# Altium integrated library wafer-scale-psd.IntLib: 84 symbols (part 1 of 2)
Pins are listed as number, name and electrical type; pins without a type are passive.

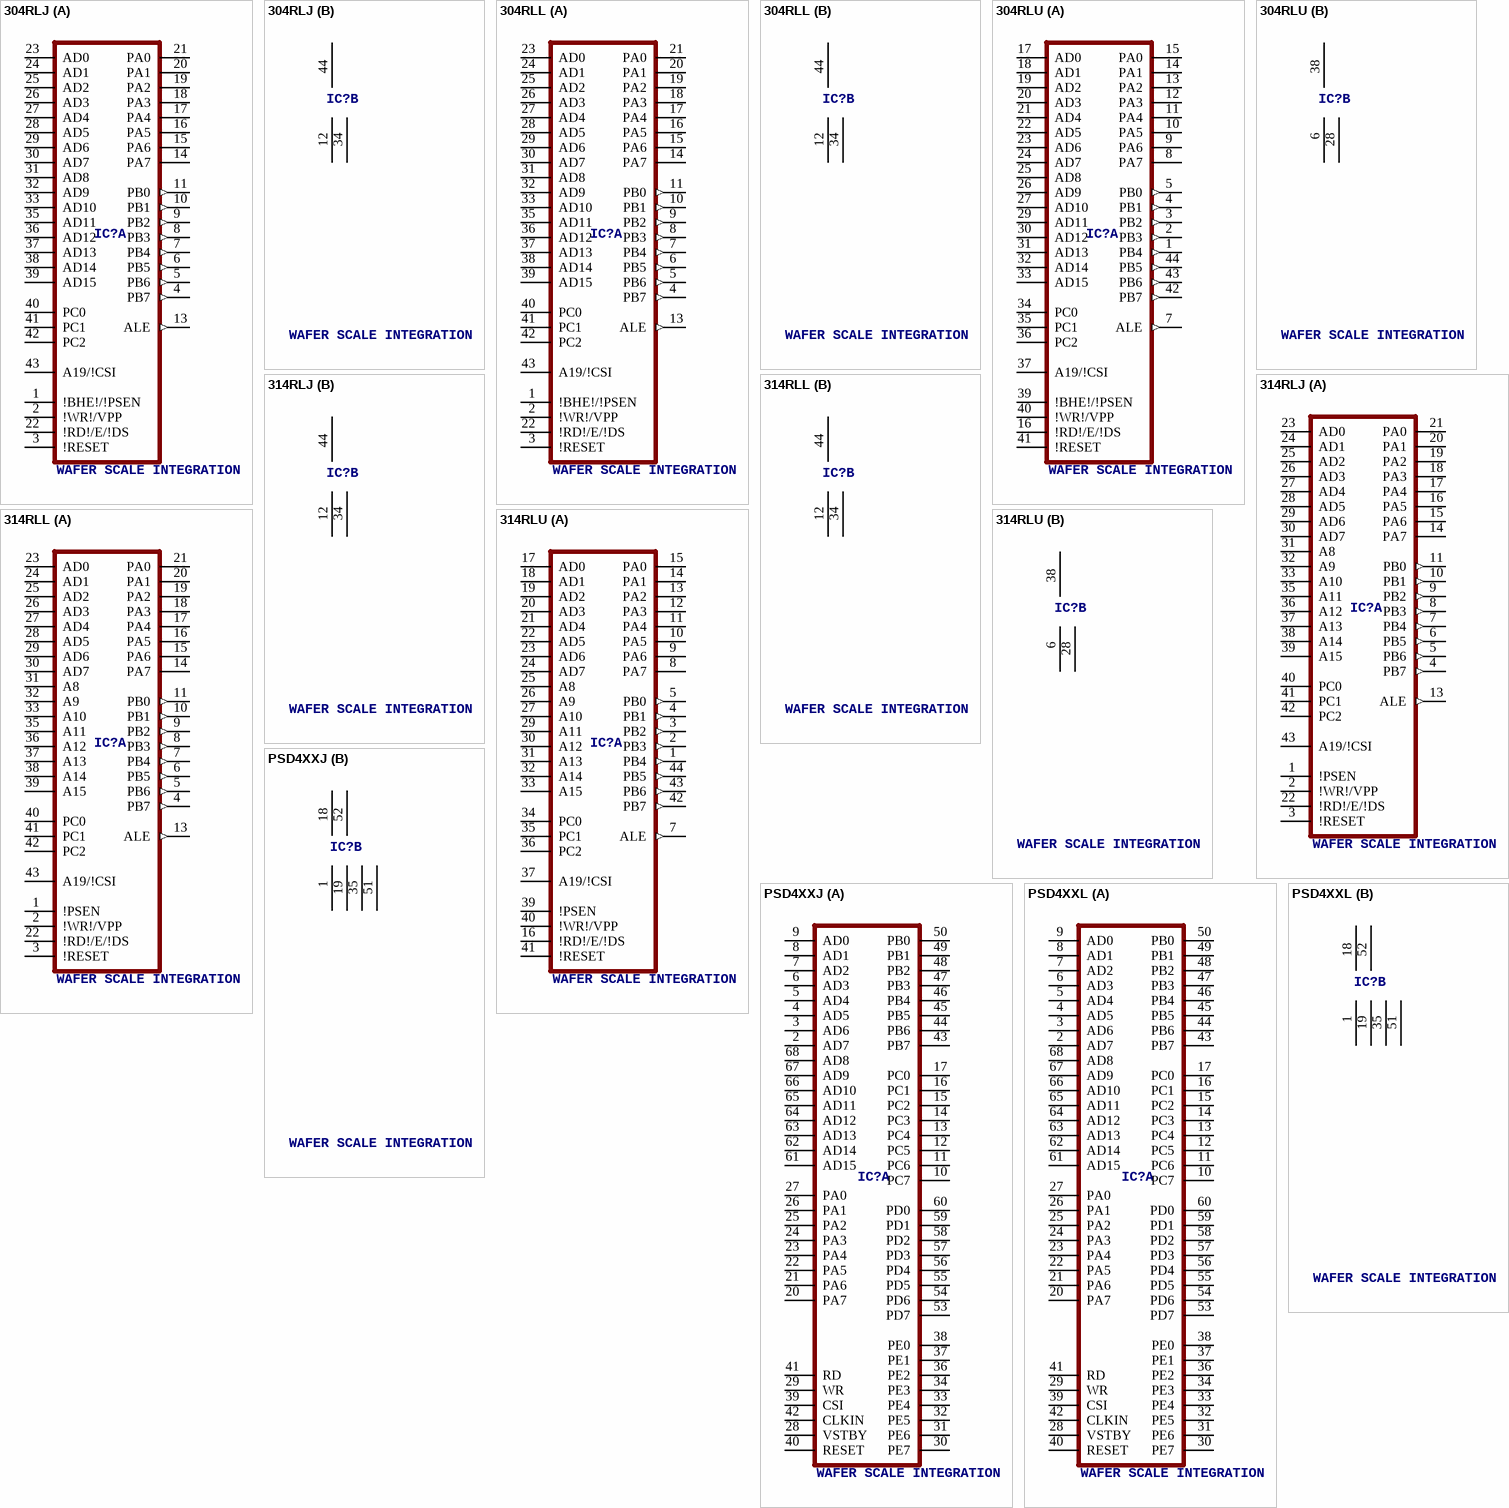
[diagram p0: symbols 304RLJ to PSD4XXL]

## 304RLJ
designator IC?, comment WAFER SCALE INTEGRATION
OC_FARNELL: unknown; OC_NEWARK: unknown
footprint PLDCC44
part A pins: 1 !BHE!/!PSEN, 2 !WR!/VPP, 3 !RESET, 4 PB7 (out), 5 PB6 (out), 6 PB5 (out), 7 PB4 (out), 8 PB3 (out), 9 PB2 (out), 10 PB1 (out), 11 PB0 (out), 13 ALE (out), 14 PA7, 15 PA6, 16 PA5, 17 PA4, 18 PA3, 19 PA2, 20 PA1, 21 PA0, 22 !RD!/E/!DS, 23 AD0, 24 AD1, 25 AD2, 26 AD3, 27 AD4, 28 AD5, 29 AD6, 30 AD7, 31 AD8, 32 AD9, 33 AD10, 35 AD11, 36 AD12, 37 AD13, 38 AD14, 39 AD15, 40 PC0, 41 PC1, 42 PC2, 43 A19/!CSI
part B pins: 12 GND (power), 34 GND@1 (power), 44 VCC (power)

## 304RLL
designator IC?, comment WAFER SCALE INTEGRATION
OC_FARNELL: unknown; OC_NEWARK: unknown
footprint CLDCC44
part A pins: 1 !BHE!/!PSEN, 2 !WR!/VPP, 3 !RESET, 4 PB7 (out), 5 PB6 (out), 6 PB5 (out), 7 PB4 (out), 8 PB3 (out), 9 PB2 (out), 10 PB1 (out), 11 PB0 (out), 13 ALE (out), 14 PA7, 15 PA6, 16 PA5, 17 PA4, 18 PA3, 19 PA2, 20 PA1, 21 PA0, 22 !RD!/E/!DS, 23 AD0, 24 AD1, 25 AD2, 26 AD3, 27 AD4, 28 AD5, 29 AD6, 30 AD7, 31 AD8, 32 AD9, 33 AD10, 35 AD11, 36 AD12, 37 AD13, 38 AD14, 39 AD15, 40 PC0, 41 PC1, 42 PC2, 43 A19/!CSI
part B pins: 12 GND (power), 34 GND@1 (power), 44 VCC (power)

## 304RLU
designator IC?, comment WAFER SCALE INTEGRATION
OC_FARNELL: unknown; OC_NEWARK: unknown
footprint TQFP44
part A pins: 1 PB4 (out), 2 PB3 (out), 3 PB2 (out), 4 PB1 (out), 5 PB0 (out), 7 ALE (out), 8 PA7, 9 PA6, 10 PA5, 11 PA4, 12 PA3, 13 PA2, 14 PA1, 15 PA0, 16 !RD!/E/!DS, 17 AD0, 18 AD1, 19 AD2, 20 AD3, 21 AD4, 22 AD5, 23 AD6, 24 AD7, 25 AD8, 26 AD9, 27 AD10, 29 AD11, 30 AD12, 31 AD13, 32 AD14, 33 AD15, 34 PC0, 35 PC1, 36 PC2, 37 A19/!CSI, 39 !BHE!/!PSEN, 40 !WR!/VPP, 41 !RESET, 42 PB7 (out), 43 PB6 (out), 44 PB5 (out)
part B pins: 6 GND (power), 28 GND@1 (power), 38 VCC (power)

## 314RLJ
designator IC?, comment WAFER SCALE INTEGRATION
OC_FARNELL: unknown; OC_NEWARK: unknown
footprint PLDCC44
part A pins: 1 !PSEN, 2 !WR!/VPP, 3 !RESET, 4 PB7 (out), 5 PB6 (out), 6 PB5 (out), 7 PB4 (out), 8 PB3 (out), 9 PB2 (out), 10 PB1 (out), 11 PB0 (out), 13 ALE (out), 14 PA7, 15 PA6, 16 PA5, 17 PA4, 18 PA3, 19 PA2, 20 PA1, 21 PA0, 22 !RD!/E/!DS, 23 AD0, 24 AD1, 25 AD2, 26 AD3, 27 AD4, 28 AD5, 29 AD6, 30 AD7, 31 A8, 32 A9, 33 A10, 35 A11, 36 A12, 37 A13, 38 A14, 39 A15, 40 PC0, 41 PC1, 42 PC2, 43 A19/!CSI
part B pins: 12 GND (power), 34 GND@1 (power), 44 VCC (power)

## 314RLL
designator IC?, comment WAFER SCALE INTEGRATION
OC_FARNELL: unknown; OC_NEWARK: unknown
footprint CLDCC44
part A pins: 1 !PSEN, 2 !WR!/VPP, 3 !RESET, 4 PB7 (out), 5 PB6 (out), 6 PB5 (out), 7 PB4 (out), 8 PB3 (out), 9 PB2 (out), 10 PB1 (out), 11 PB0 (out), 13 ALE (out), 14 PA7, 15 PA6, 16 PA5, 17 PA4, 18 PA3, 19 PA2, 20 PA1, 21 PA0, 22 !RD!/E/!DS, 23 AD0, 24 AD1, 25 AD2, 26 AD3, 27 AD4, 28 AD5, 29 AD6, 30 AD7, 31 A8, 32 A9, 33 A10, 35 A11, 36 A12, 37 A13, 38 A14, 39 A15, 40 PC0, 41 PC1, 42 PC2, 43 A19/!CSI
part B pins: 12 GND (power), 34 GND@1 (power), 44 VCC (power)

## 314RLU
designator IC?, comment WAFER SCALE INTEGRATION
OC_FARNELL: unknown; OC_NEWARK: unknown
footprint TQFP44
part A pins: 1 PB4 (out), 2 PB3 (out), 3 PB2 (out), 4 PB1 (out), 5 PB0 (out), 7 ALE (out), 8 PA7, 9 PA6, 10 PA5, 11 PA4, 12 PA3, 13 PA2, 14 PA1, 15 PA0, 16 !RD!/E/!DS, 17 AD0, 18 AD1, 19 AD2, 20 AD3, 21 AD4, 22 AD5, 23 AD6, 24 AD7, 25 A8, 26 A9, 27 A10, 29 A11, 30 A12, 31 A13, 32 A14, 33 A15, 34 PC0, 35 PC1, 36 PC2, 37 A19/!CSI, 39 !PSEN, 40 !WR!/VPP, 41 !RESET, 42 PB7 (out), 43 PB6 (out), 44 PB5 (out)
part B pins: 6 GND (power), 28 GND@1 (power), 38 VCC (power)

## PSD4XXJ
designator IC?, comment WAFER SCALE INTEGRATION
OC_FARNELL: unknown; OC_NEWARK: unknown
footprint PLDCC68
part A pins: 2 AD7, 3 AD6, 4 AD5, 5 AD4, 6 AD3, 7 AD2, 8 AD1, 9 AD0, 10 PC7, 11 PC6, 12 PC5, 13 PC4, 14 PC3, 15 PC2, 16 PC1, 17 PC0, 20 PA7, 21 PA6, 22 PA5, 23 PA4, 24 PA3, 25 PA2, 26 PA1, 27 PA0, 28 VSTBY, 29 WR, 30 PE7, 31 PE6, 32 PE5, 33 PE4, 34 PE3, 36 PE2, 37 PE1, 38 PE0, 39 CSI, 40 RESET, 41 RD, 42 CLKIN, 43 PB7, 44 PB6, 45 PB5, 46 PB4, 47 PB3, 48 PB2, 49 PB1, 50 PB0, 53 PD7, 54 PD6, 55 PD5, 56 PD4, 57 PD3, 58 PD2, 59 PD1, 60 PD0, 61 AD15, 62 AD14, 63 AD13, 64 AD12, 65 AD11, 66 AD10, 67 AD9, 68 AD8
part B pins: 1 GND (power), 18 VCC (power), 19 GND@1 (power), 35 GND@2 (power), 51 GND@3 (power), 52 VCC@1 (power)

## PSD4XXL
designator IC?, comment WAFER SCALE INTEGRATION
OC_FARNELL: unknown; OC_NEWARK: unknown
footprint CLDCC68
part A pins: 2 AD7, 3 AD6, 4 AD5, 5 AD4, 6 AD3, 7 AD2, 8 AD1, 9 AD0, 10 PC7, 11 PC6, 12 PC5, 13 PC4, 14 PC3, 15 PC2, 16 PC1, 17 PC0, 20 PA7, 21 PA6, 22 PA5, 23 PA4, 24 PA3, 25 PA2, 26 PA1, 27 PA0, 28 VSTBY, 29 WR, 30 PE7, 31 PE6, 32 PE5, 33 PE4, 34 PE3, 36 PE2, 37 PE1, 38 PE0, 39 CSI, 40 RESET, 41 RD, 42 CLKIN, 43 PB7, 44 PB6, 45 PB5, 46 PB4, 47 PB3, 48 PB2, 49 PB1, 50 PB0, 53 PD7, 54 PD6, 55 PD5, 56 PD4, 57 PD3, 58 PD2, 59 PD1, 60 PD0, 61 AD15, 62 AD14, 63 AD13, 64 AD12, 65 AD11, 66 AD10, 67 AD9, 68 AD8
part B pins: 1 GND (power), 18 VCC (power), 19 GND@1 (power), 35 GND@2 (power), 51 GND@3 (power), 52 VCC@1 (power)

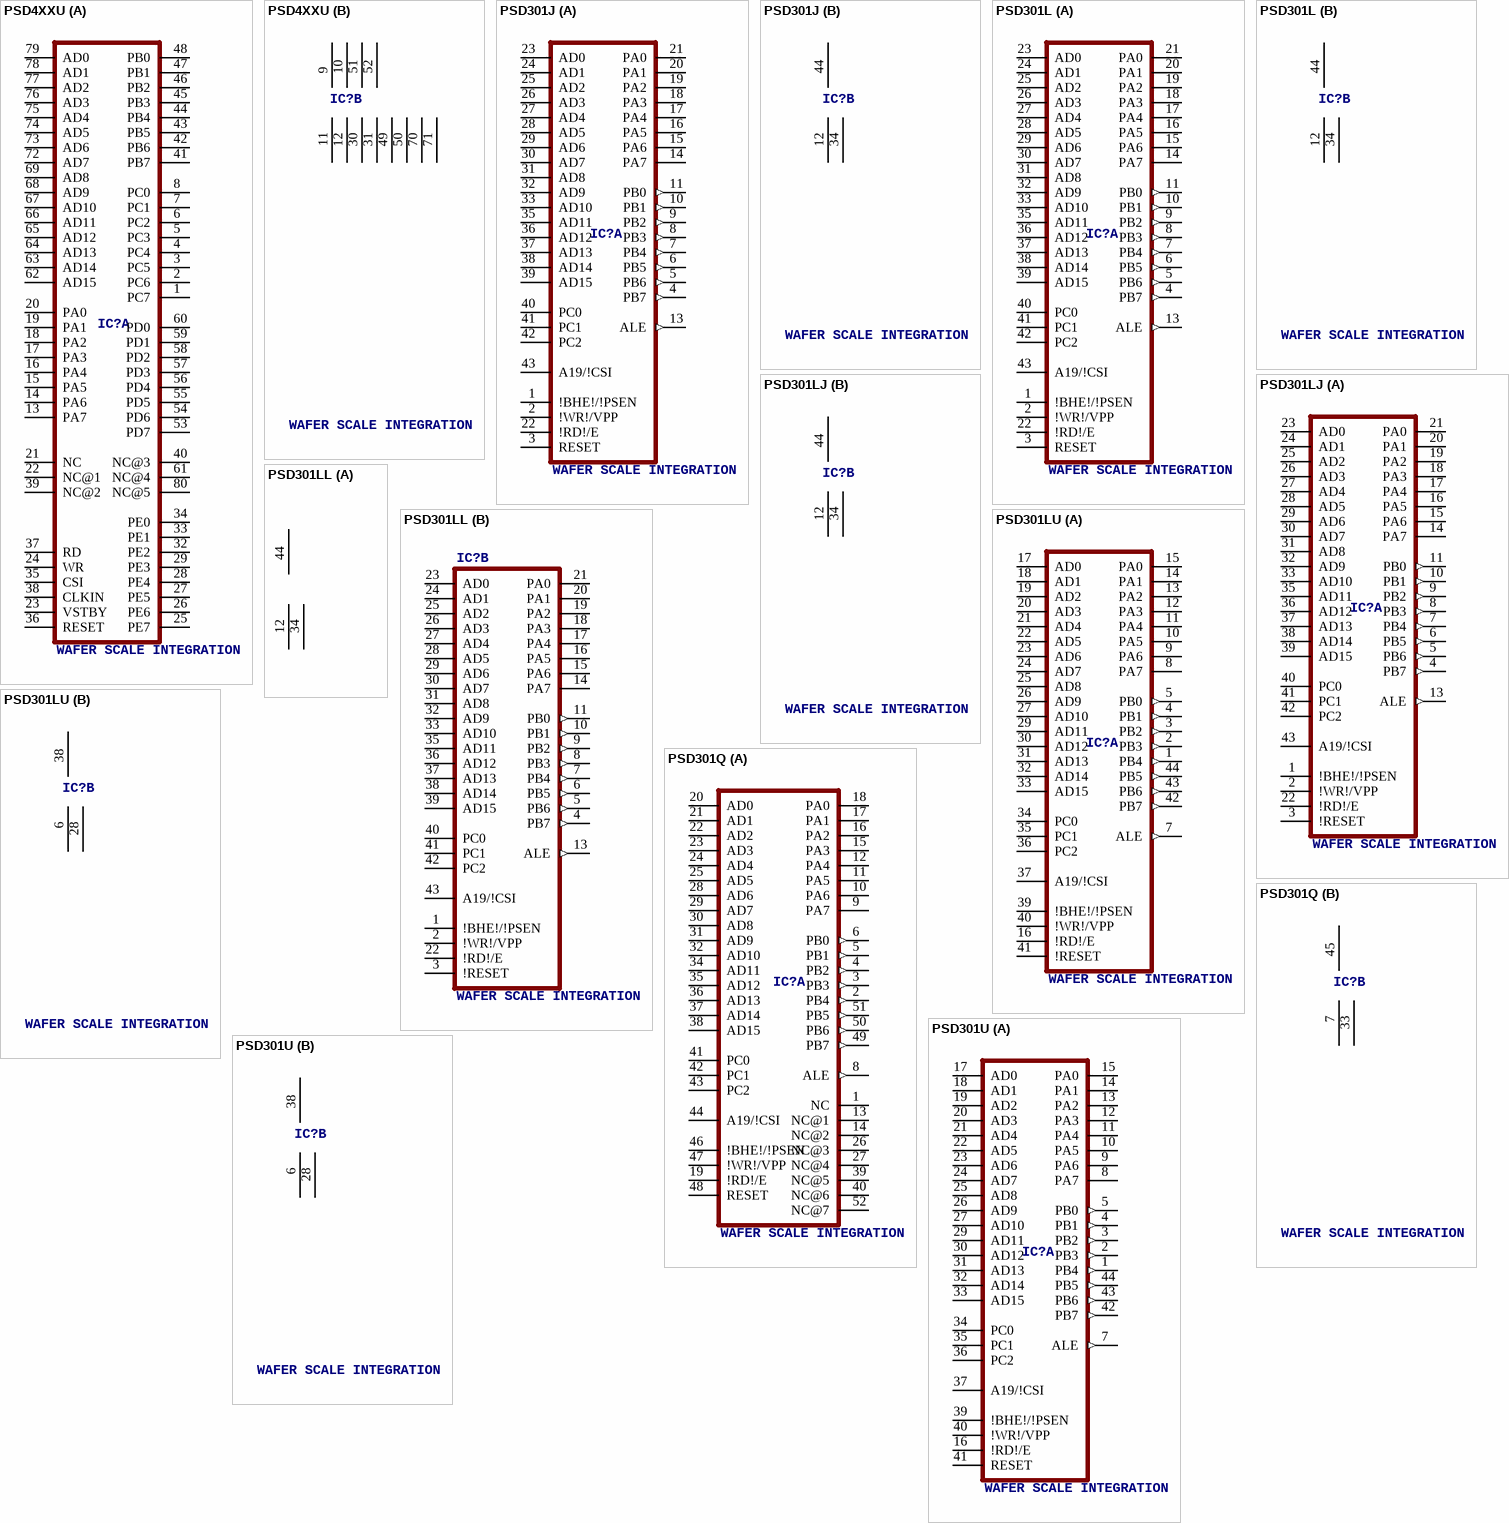
[diagram p1: symbols PSD4XXU to PSD301U]

## PSD4XXU
designator IC?, comment WAFER SCALE INTEGRATION
OC_FARNELL: unknown; OC_NEWARK: unknown
footprint TQFP80
part A pins: 1 PC7, 2 PC6, 3 PC5, 4 PC4, 5 PC3, 6 PC2, 7 PC1, 8 PC0, 13 PA7, 14 PA6, 15 PA5, 16 PA4, 17 PA3, 18 PA2, 19 PA1, 20 PA0, 21 NC, 22 NC@1, 23 VSTBY, 24 WR, 25 PE7, 26 PE6, 27 PE5, 28 PE4, 29 PE3, 32 PE2, 33 PE1, 34 PE0, 35 CSI, 36 RESET, 37 RD, 38 CLKIN, 39 NC@2, 40 NC@3, 41 PB7, 42 PB6, 43 PB5, 44 PB4, 45 PB3, 46 PB2, 47 PB1, 48 PB0, 53 PD7, 54 PD6, 55 PD5, 56 PD4, 57 PD3, 58 PD2, 59 PD1, 60 PD0, 61 NC@4, 62 AD15, 63 AD14, 64 AD13, 65 AD12, 66 AD11, 67 AD10, 68 AD9, 69 AD8, 72 AD7, 73 AD6, 74 AD5, 75 AD4, 76 AD3, 77 AD2, 78 AD1, 79 AD0, 80 NC@5
part B pins: 9 VCC (power), 10 VCC@1 (power), 11 GND (power), 12 GND@1 (power), 30 GND@2 (power), 31 GND@3 (power), 49 GND@4 (power), 50 GND@5 (power), 51 VCC@2 (power), 52 VCC@3 (power), 70 GND@6 (power), 71 GND@7 (power)

## PSD301J
designator IC?, comment WAFER SCALE INTEGRATION
OC_FARNELL: unknown; OC_NEWARK: unknown
footprint PLDCC44
part A pins: 1 !BHE!/!PSEN, 2 !WR!/VPP, 3 RESET, 4 PB7 (out), 5 PB6 (out), 6 PB5 (out), 7 PB4 (out), 8 PB3 (out), 9 PB2 (out), 10 PB1 (out), 11 PB0 (out), 13 ALE (out), 14 PA7, 15 PA6, 16 PA5, 17 PA4, 18 PA3, 19 PA2, 20 PA1, 21 PA0, 22 !RD!/E, 23 AD0, 24 AD1, 25 AD2, 26 AD3, 27 AD4, 28 AD5, 29 AD6, 30 AD7, 31 AD8, 32 AD9, 33 AD10, 35 AD11, 36 AD12, 37 AD13, 38 AD14, 39 AD15, 40 PC0, 41 PC1, 42 PC2, 43 A19/!CSI
part B pins: 12 GND (power), 34 GND@1 (power), 44 VCC (power)

## PSD301L
designator IC?, comment WAFER SCALE INTEGRATION
OC_FARNELL: unknown; OC_NEWARK: unknown
footprint CLDCC44
part A pins: 1 !BHE!/!PSEN, 2 !WR!/VPP, 3 RESET, 4 PB7 (out), 5 PB6 (out), 6 PB5 (out), 7 PB4 (out), 8 PB3 (out), 9 PB2 (out), 10 PB1 (out), 11 PB0 (out), 13 ALE (out), 14 PA7, 15 PA6, 16 PA5, 17 PA4, 18 PA3, 19 PA2, 20 PA1, 21 PA0, 22 !RD!/E, 23 AD0, 24 AD1, 25 AD2, 26 AD3, 27 AD4, 28 AD5, 29 AD6, 30 AD7, 31 AD8, 32 AD9, 33 AD10, 35 AD11, 36 AD12, 37 AD13, 38 AD14, 39 AD15, 40 PC0, 41 PC1, 42 PC2, 43 A19/!CSI
part B pins: 12 GND (power), 34 GND@1 (power), 44 VCC (power)

## PSD301LJ
designator IC?, comment WAFER SCALE INTEGRATION
OC_FARNELL: unknown; OC_NEWARK: unknown
footprint PLDCC44
part A pins: 1 !BHE!/!PSEN, 2 !WR!/VPP, 3 !RESET, 4 PB7 (out), 5 PB6 (out), 6 PB5 (out), 7 PB4 (out), 8 PB3 (out), 9 PB2 (out), 10 PB1 (out), 11 PB0 (out), 13 ALE (out), 14 PA7, 15 PA6, 16 PA5, 17 PA4, 18 PA3, 19 PA2, 20 PA1, 21 PA0, 22 !RD!/E, 23 AD0, 24 AD1, 25 AD2, 26 AD3, 27 AD4, 28 AD5, 29 AD6, 30 AD7, 31 AD8, 32 AD9, 33 AD10, 35 AD11, 36 AD12, 37 AD13, 38 AD14, 39 AD15, 40 PC0, 41 PC1, 42 PC2, 43 A19/!CSI
part B pins: 12 GND (power), 34 GND@1 (power), 44 VCC (power)

## PSD301LL
designator IC?, comment WAFER SCALE INTEGRATION
MPN: ZPSD301B-70J; OC_FARNELL: unknown; OC_NEWARK: 37M9798
footprint CLDCC44
part A pins: 12 GND (power), 34 GND@1 (power), 44 VCC (power)
part B pins: 1 !BHE!/!PSEN, 2 !WR!/VPP, 3 !RESET, 4 PB7 (out), 5 PB6 (out), 6 PB5 (out), 7 PB4 (out), 8 PB3 (out), 9 PB2 (out), 10 PB1 (out), 11 PB0 (out), 13 ALE (out), 14 PA7, 15 PA6, 16 PA5, 17 PA4, 18 PA3, 19 PA2, 20 PA1, 21 PA0, 22 !RD!/E, 23 AD0, 24 AD1, 25 AD2, 26 AD3, 27 AD4, 28 AD5, 29 AD6, 30 AD7, 31 AD8, 32 AD9, 33 AD10, 35 AD11, 36 AD12, 37 AD13, 38 AD14, 39 AD15, 40 PC0, 41 PC1, 42 PC2, 43 A19/!CSI

## PSD301LU
designator IC?, comment WAFER SCALE INTEGRATION
OC_FARNELL: unknown; OC_NEWARK: unknown
footprint TQFP44
part A pins: 1 PB4 (out), 2 PB3 (out), 3 PB2 (out), 4 PB1 (out), 5 PB0 (out), 7 ALE (out), 8 PA7, 9 PA6, 10 PA5, 11 PA4, 12 PA3, 13 PA2, 14 PA1, 15 PA0, 16 !RD!/E, 17 AD0, 18 AD1, 19 AD2, 20 AD3, 21 AD4, 22 AD5, 23 AD6, 24 AD7, 25 AD8, 26 AD9, 27 AD10, 29 AD11, 30 AD12, 31 AD13, 32 AD14, 33 AD15, 34 PC0, 35 PC1, 36 PC2, 37 A19/!CSI, 39 !BHE!/!PSEN, 40 !WR!/VPP, 41 !RESET, 42 PB7 (out), 43 PB6 (out), 44 PB5 (out)
part B pins: 6 GND (power), 28 GND@1 (power), 38 VCC (power)

## PSD301Q
designator IC?, comment WAFER SCALE INTEGRATION
OC_FARNELL: unknown; OC_NEWARK: unknown
footprint PQFP52
part A pins: 1 NC, 2 PB4 (out), 3 PB3 (out), 4 PB2 (out), 5 PB1 (out), 6 PB0 (out), 8 ALE (out), 9 PA7, 10 PA6, 11 PA5, 12 PA4, 13 NC@1, 14 NC@2, 15 PA3, 16 PA2, 17 PA1, 18 PA0, 19 !RD!/E, 20 AD0, 21 AD1, 22 AD2, 23 AD3, 24 AD4, 25 AD5, 26 NC@3, 27 NC@4, 28 AD6, 29 AD7, 30 AD8, 31 AD9, 32 AD10, 34 AD11, 35 AD12, 36 AD13, 37 AD14, 38 AD15, 39 NC@5, 40 NC@6, 41 PC0, 42 PC1, 43 PC2, 44 A19/!CSI, 46 !BHE!/!PSEN, 47 !WR!/VPP, 48 RESET, 49 PB7 (out), 50 PB6 (out), 51 PB5 (out), 52 NC@7
part B pins: 7 GND (power), 33 GND@1 (power), 45 VCC (power)

## PSD301U
designator IC?, comment WAFER SCALE INTEGRATION
OC_FARNELL: unknown; OC_NEWARK: unknown
footprint TQFP44
part A pins: 1 PB4 (out), 2 PB3 (out), 3 PB2 (out), 4 PB1 (out), 5 PB0 (out), 7 ALE (out), 8 PA7, 9 PA6, 10 PA5, 11 PA4, 12 PA3, 13 PA2, 14 PA1, 15 PA0, 16 !RD!/E, 17 AD0, 18 AD1, 19 AD2, 20 AD3, 21 AD4, 22 AD5, 23 AD6, 24 AD7, 25 AD8, 26 AD9, 27 AD10, 29 AD11, 30 AD12, 31 AD13, 32 AD14, 33 AD15, 34 PC0, 35 PC1, 36 PC2, 37 A19/!CSI, 39 !BHE!/!PSEN, 40 !WR!/VPP, 41 RESET, 42 PB7 (out), 43 PB6 (out), 44 PB5 (out)
part B pins: 6 GND (power), 28 GND@1 (power), 38 VCC (power)

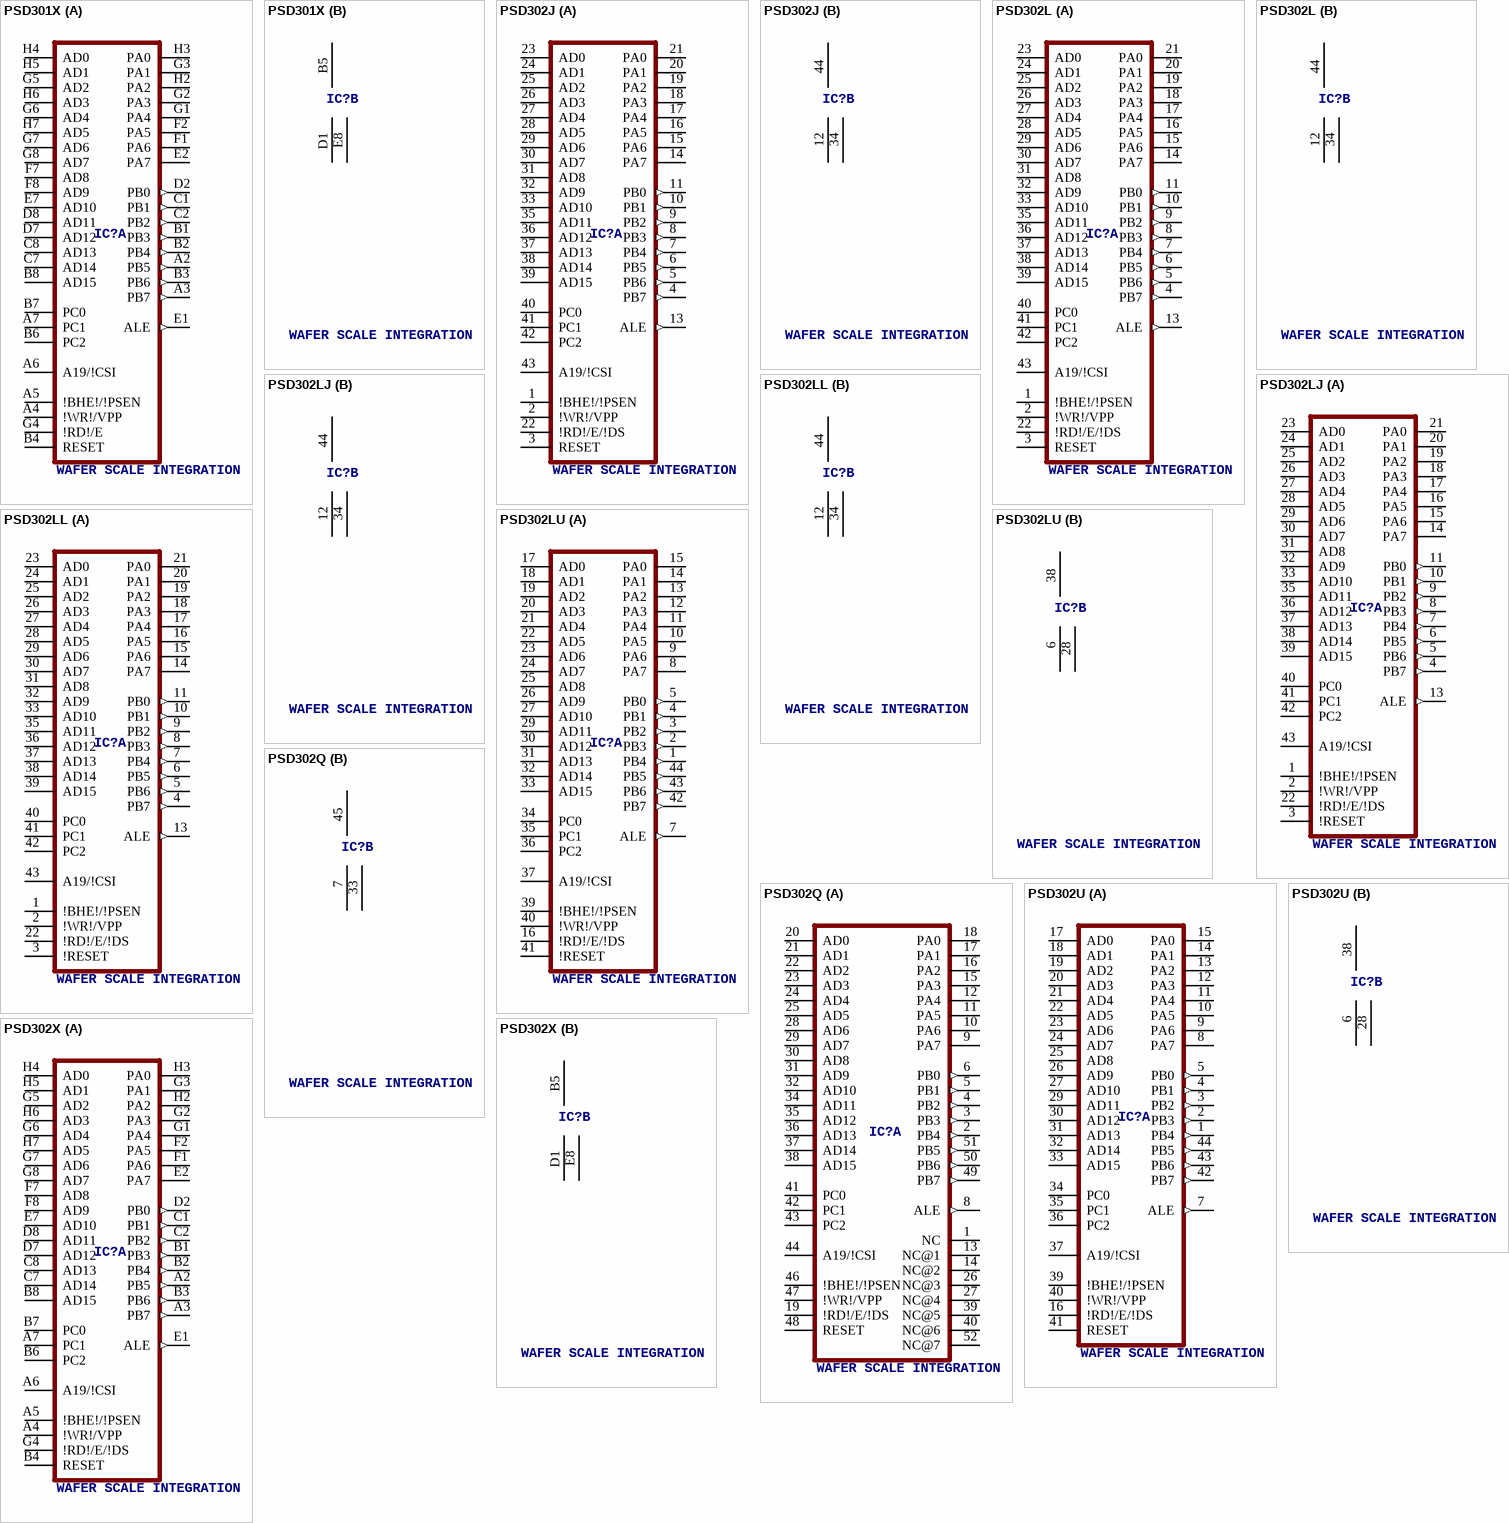
[diagram p2: symbols PSD301X to PSD302X]

## PSD301X
designator IC?, comment WAFER SCALE INTEGRATION
OC_FARNELL: unknown; OC_NEWARK: unknown
footprint CPGA44
part A pins: A2 PB5 (out), A3 PB7 (out), A4 !WR!/VPP, A5 !BHE!/!PSEN, A6 A19/!CSI, A7 PC1, B1 PB3 (out), B2 PB4 (out), B3 PB6 (out), B4 RESET, B6 PC2, B7 PC0, B8 AD15, C1 PB1 (out), C2 PB2 (out), C7 AD14, C8 AD13, D2 PB0 (out), D7 AD12, D8 AD11, E1 ALE (out), E2 PA7, E7 AD10, F1 PA6, F2 PA5, F7 AD8, F8 AD9, G1 PA4, G2 PA3, G3 PA1, G4 !RD!/E, G5 AD2, G6 AD4, G7 AD6, G8 AD7, H2 PA2, H3 PA0, H4 AD0, H5 AD1, H6 AD3, H7 AD5
part B pins: B5 VCC (power), D1 GND (power), E8 GND@1 (power)

## PSD302J
designator IC?, comment WAFER SCALE INTEGRATION
MPN: ZPSD302B-70J; OC_FARNELL: unknown; OC_NEWARK: 57P5467
footprint PLDCC44
part A pins: 1 !BHE!/!PSEN, 2 !WR!/VPP, 3 RESET, 4 PB7 (out), 5 PB6 (out), 6 PB5 (out), 7 PB4 (out), 8 PB3 (out), 9 PB2 (out), 10 PB1 (out), 11 PB0 (out), 13 ALE (out), 14 PA7, 15 PA6, 16 PA5, 17 PA4, 18 PA3, 19 PA2, 20 PA1, 21 PA0, 22 !RD!/E/!DS, 23 AD0, 24 AD1, 25 AD2, 26 AD3, 27 AD4, 28 AD5, 29 AD6, 30 AD7, 31 AD8, 32 AD9, 33 AD10, 35 AD11, 36 AD12, 37 AD13, 38 AD14, 39 AD15, 40 PC0, 41 PC1, 42 PC2, 43 A19/!CSI
part B pins: 12 GND (power), 34 GND@1 (power), 44 VCC (power)

## PSD302L
designator IC?, comment WAFER SCALE INTEGRATION
OC_FARNELL: unknown; OC_NEWARK: unknown
footprint CLDCC44
part A pins: 1 !BHE!/!PSEN, 2 !WR!/VPP, 3 RESET, 4 PB7 (out), 5 PB6 (out), 6 PB5 (out), 7 PB4 (out), 8 PB3 (out), 9 PB2 (out), 10 PB1 (out), 11 PB0 (out), 13 ALE (out), 14 PA7, 15 PA6, 16 PA5, 17 PA4, 18 PA3, 19 PA2, 20 PA1, 21 PA0, 22 !RD!/E/!DS, 23 AD0, 24 AD1, 25 AD2, 26 AD3, 27 AD4, 28 AD5, 29 AD6, 30 AD7, 31 AD8, 32 AD9, 33 AD10, 35 AD11, 36 AD12, 37 AD13, 38 AD14, 39 AD15, 40 PC0, 41 PC1, 42 PC2, 43 A19/!CSI
part B pins: 12 GND (power), 34 GND@1 (power), 44 VCC (power)

## PSD302LJ
designator IC?, comment WAFER SCALE INTEGRATION
OC_FARNELL: unknown; OC_NEWARK: unknown
footprint PLDCC44
part A pins: 1 !BHE!/!PSEN, 2 !WR!/VPP, 3 !RESET, 4 PB7 (out), 5 PB6 (out), 6 PB5 (out), 7 PB4 (out), 8 PB3 (out), 9 PB2 (out), 10 PB1 (out), 11 PB0 (out), 13 ALE (out), 14 PA7, 15 PA6, 16 PA5, 17 PA4, 18 PA3, 19 PA2, 20 PA1, 21 PA0, 22 !RD!/E/!DS, 23 AD0, 24 AD1, 25 AD2, 26 AD3, 27 AD4, 28 AD5, 29 AD6, 30 AD7, 31 AD8, 32 AD9, 33 AD10, 35 AD11, 36 AD12, 37 AD13, 38 AD14, 39 AD15, 40 PC0, 41 PC1, 42 PC2, 43 A19/!CSI
part B pins: 12 GND (power), 34 GND@1 (power), 44 VCC (power)

## PSD302LL
designator IC?, comment WAFER SCALE INTEGRATION
OC_FARNELL: unknown; OC_NEWARK: unknown
footprint CLDCC44
part A pins: 1 !BHE!/!PSEN, 2 !WR!/VPP, 3 !RESET, 4 PB7 (out), 5 PB6 (out), 6 PB5 (out), 7 PB4 (out), 8 PB3 (out), 9 PB2 (out), 10 PB1 (out), 11 PB0 (out), 13 ALE (out), 14 PA7, 15 PA6, 16 PA5, 17 PA4, 18 PA3, 19 PA2, 20 PA1, 21 PA0, 22 !RD!/E/!DS, 23 AD0, 24 AD1, 25 AD2, 26 AD3, 27 AD4, 28 AD5, 29 AD6, 30 AD7, 31 AD8, 32 AD9, 33 AD10, 35 AD11, 36 AD12, 37 AD13, 38 AD14, 39 AD15, 40 PC0, 41 PC1, 42 PC2, 43 A19/!CSI
part B pins: 12 GND (power), 34 GND@1 (power), 44 VCC (power)

## PSD302LU
designator IC?, comment WAFER SCALE INTEGRATION
OC_FARNELL: unknown; OC_NEWARK: unknown
footprint TQFP44
part A pins: 1 PB4 (out), 2 PB3 (out), 3 PB2 (out), 4 PB1 (out), 5 PB0 (out), 7 ALE (out), 8 PA7, 9 PA6, 10 PA5, 11 PA4, 12 PA3, 13 PA2, 14 PA1, 15 PA0, 16 !RD!/E/!DS, 17 AD0, 18 AD1, 19 AD2, 20 AD3, 21 AD4, 22 AD5, 23 AD6, 24 AD7, 25 AD8, 26 AD9, 27 AD10, 29 AD11, 30 AD12, 31 AD13, 32 AD14, 33 AD15, 34 PC0, 35 PC1, 36 PC2, 37 A19/!CSI, 39 !BHE!/!PSEN, 40 !WR!/VPP, 41 !RESET, 42 PB7 (out), 43 PB6 (out), 44 PB5 (out)
part B pins: 6 GND (power), 28 GND@1 (power), 38 VCC (power)

## PSD302Q
designator IC?, comment WAFER SCALE INTEGRATION
OC_FARNELL: unknown; OC_NEWARK: unknown
footprint PQFP52
part A pins: 1 NC, 2 PB4 (out), 3 PB3 (out), 4 PB2 (out), 5 PB1 (out), 6 PB0 (out), 8 ALE (out), 9 PA7, 10 PA6, 11 PA5, 12 PA4, 13 NC@1, 14 NC@2, 15 PA3, 16 PA2, 17 PA1, 18 PA0, 19 !RD!/E/!DS, 20 AD0, 21 AD1, 22 AD2, 23 AD3, 24 AD4, 25 AD5, 26 NC@3, 27 NC@4, 28 AD6, 29 AD7, 30 AD8, 31 AD9, 32 AD10, 34 AD11, 35 AD12, 36 AD13, 37 AD14, 38 AD15, 39 NC@5, 40 NC@6, 41 PC0, 42 PC1, 43 PC2, 44 A19/!CSI, 46 !BHE!/!PSEN, 47 !WR!/VPP, 48 RESET, 49 PB7 (out), 50 PB6 (out), 51 PB5 (out), 52 NC@7
part B pins: 7 GND (power), 33 GND@1 (power), 45 VCC (power)

## PSD302U
designator IC?, comment WAFER SCALE INTEGRATION
OC_FARNELL: unknown; OC_NEWARK: unknown
footprint TQFP44
part A pins: 1 PB4 (out), 2 PB3 (out), 3 PB2 (out), 4 PB1 (out), 5 PB0 (out), 7 ALE (out), 8 PA7, 9 PA6, 10 PA5, 11 PA4, 12 PA3, 13 PA2, 14 PA1, 15 PA0, 16 !RD!/E/!DS, 17 AD0, 18 AD1, 19 AD2, 20 AD3, 21 AD4, 22 AD5, 23 AD6, 24 AD7, 25 AD8, 26 AD9, 27 AD10, 29 AD11, 30 AD12, 31 AD13, 32 AD14, 33 AD15, 34 PC0, 35 PC1, 36 PC2, 37 A19/!CSI, 39 !BHE!/!PSEN, 40 !WR!/VPP, 41 RESET, 42 PB7 (out), 43 PB6 (out), 44 PB5 (out)
part B pins: 6 GND (power), 28 GND@1 (power), 38 VCC (power)

## PSD302X
designator IC?, comment WAFER SCALE INTEGRATION
OC_FARNELL: unknown; OC_NEWARK: unknown
footprint CPGA44
part A pins: A2 PB5 (out), A3 PB7 (out), A4 !WR!/VPP, A5 !BHE!/!PSEN, A6 A19/!CSI, A7 PC1, B1 PB3 (out), B2 PB4 (out), B3 PB6 (out), B4 RESET, B6 PC2, B7 PC0, B8 AD15, C1 PB1 (out), C2 PB2 (out), C7 AD14, C8 AD13, D2 PB0 (out), D7 AD12, D8 AD11, E1 ALE (out), E2 PA7, E7 AD10, F1 PA6, F2 PA5, F7 AD8, F8 AD9, G1 PA4, G2 PA3, G3 PA1, G4 !RD!/E/!DS, G5 AD2, G6 AD4, G7 AD6, G8 AD7, H2 PA2, H3 PA0, H4 AD0, H5 AD1, H6 AD3, H7 AD5
part B pins: B5 VCC (power), D1 GND (power), E8 GND@1 (power)

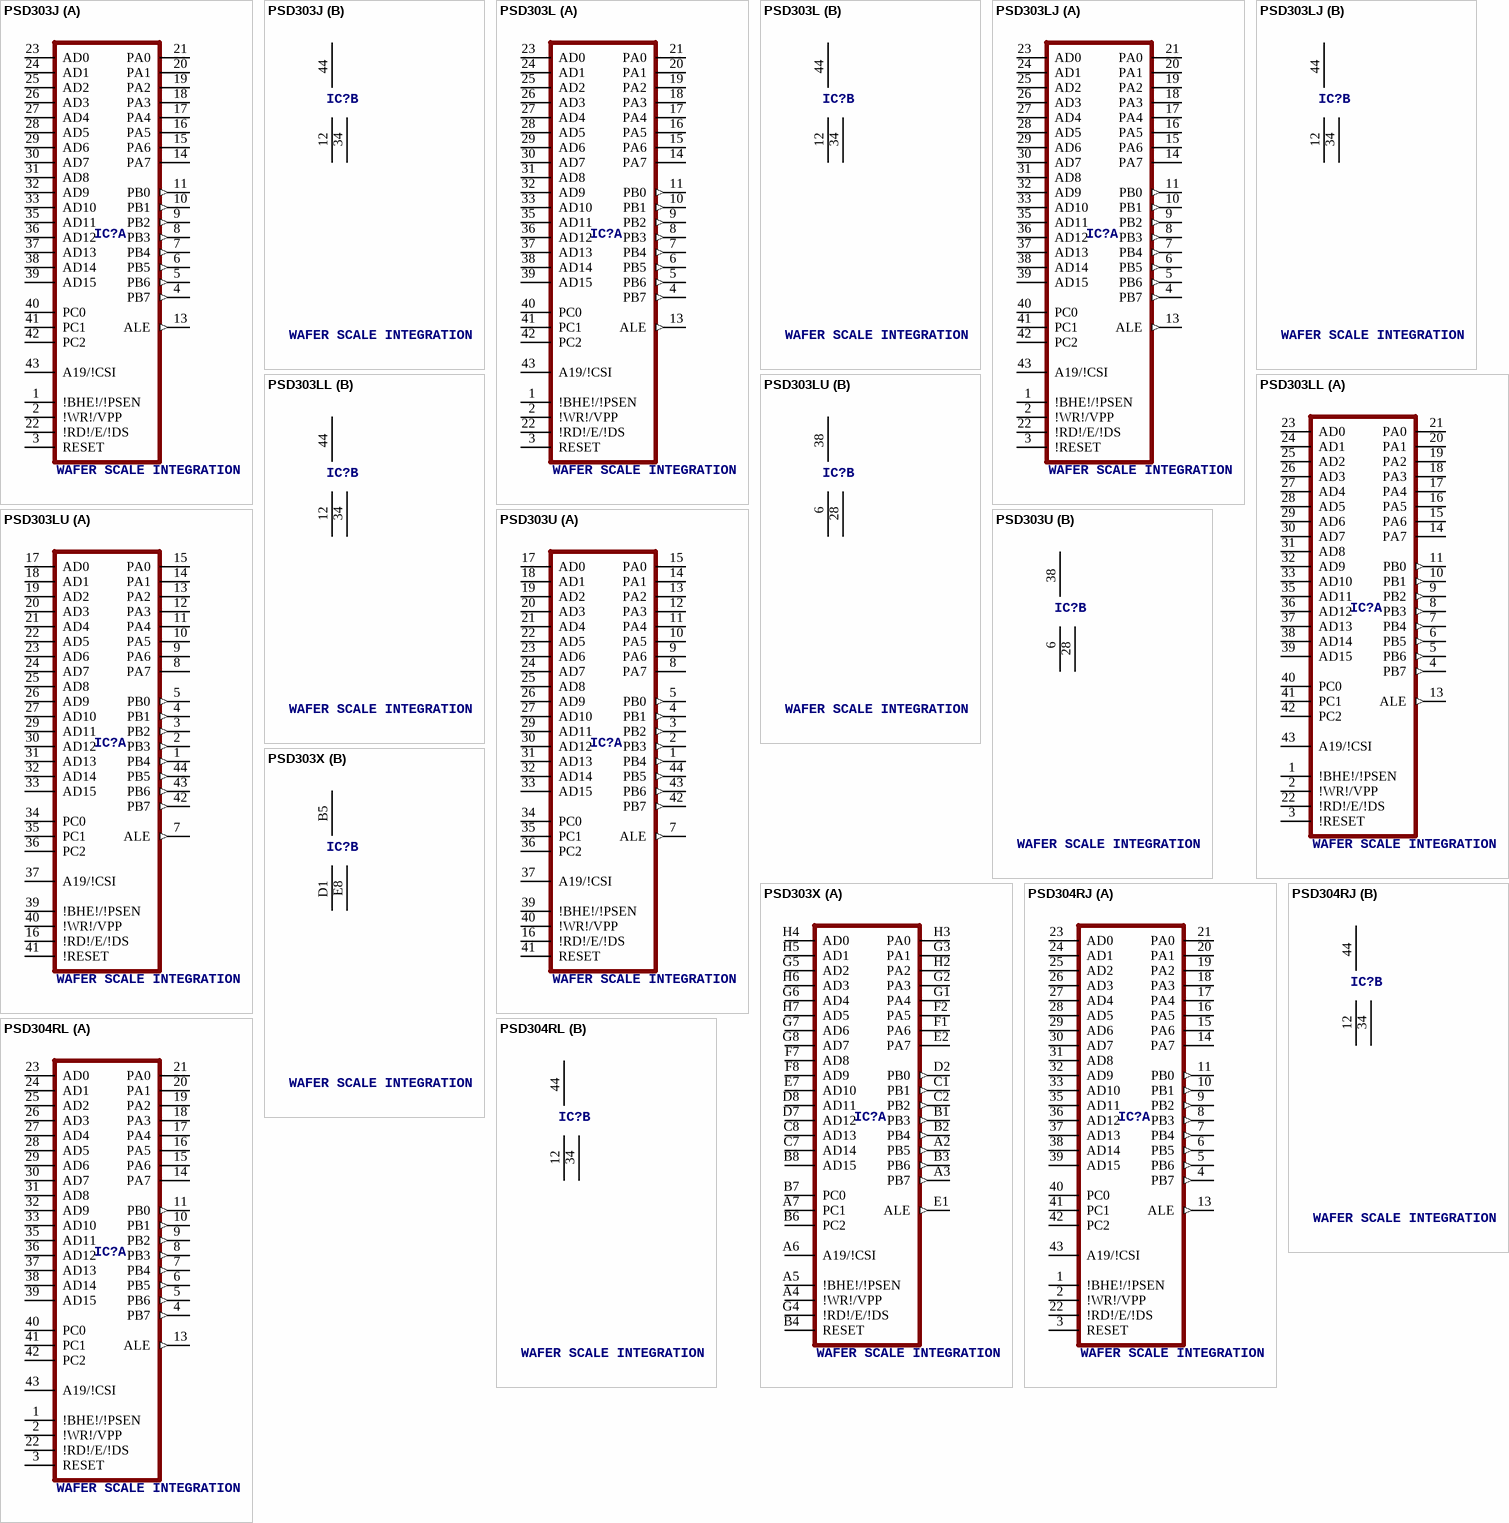
[diagram p3: symbols PSD303J to PSD304RL]

## PSD303J
designator IC?, comment WAFER SCALE INTEGRATION
MPN: ZPSD303B-90JI; OC_FARNELL: unknown; OC_NEWARK: 57P5470
footprint PLDCC44
part A pins: 1 !BHE!/!PSEN, 2 !WR!/VPP, 3 RESET, 4 PB7 (out), 5 PB6 (out), 6 PB5 (out), 7 PB4 (out), 8 PB3 (out), 9 PB2 (out), 10 PB1 (out), 11 PB0 (out), 13 ALE (out), 14 PA7, 15 PA6, 16 PA5, 17 PA4, 18 PA3, 19 PA2, 20 PA1, 21 PA0, 22 !RD!/E/!DS, 23 AD0, 24 AD1, 25 AD2, 26 AD3, 27 AD4, 28 AD5, 29 AD6, 30 AD7, 31 AD8, 32 AD9, 33 AD10, 35 AD11, 36 AD12, 37 AD13, 38 AD14, 39 AD15, 40 PC0, 41 PC1, 42 PC2, 43 A19/!CSI
part B pins: 12 GND (power), 34 GND@1 (power), 44 VCC (power)

## PSD303L
designator IC?, comment WAFER SCALE INTEGRATION
OC_FARNELL: unknown; OC_NEWARK: unknown
footprint CLDCC44
part A pins: 1 !BHE!/!PSEN, 2 !WR!/VPP, 3 RESET, 4 PB7 (out), 5 PB6 (out), 6 PB5 (out), 7 PB4 (out), 8 PB3 (out), 9 PB2 (out), 10 PB1 (out), 11 PB0 (out), 13 ALE (out), 14 PA7, 15 PA6, 16 PA5, 17 PA4, 18 PA3, 19 PA2, 20 PA1, 21 PA0, 22 !RD!/E/!DS, 23 AD0, 24 AD1, 25 AD2, 26 AD3, 27 AD4, 28 AD5, 29 AD6, 30 AD7, 31 AD8, 32 AD9, 33 AD10, 35 AD11, 36 AD12, 37 AD13, 38 AD14, 39 AD15, 40 PC0, 41 PC1, 42 PC2, 43 A19/!CSI
part B pins: 12 GND (power), 34 GND@1 (power), 44 VCC (power)

## PSD303LJ
designator IC?, comment WAFER SCALE INTEGRATION
OC_FARNELL: unknown; OC_NEWARK: unknown
footprint PLDCC44
part A pins: 1 !BHE!/!PSEN, 2 !WR!/VPP, 3 !RESET, 4 PB7 (out), 5 PB6 (out), 6 PB5 (out), 7 PB4 (out), 8 PB3 (out), 9 PB2 (out), 10 PB1 (out), 11 PB0 (out), 13 ALE (out), 14 PA7, 15 PA6, 16 PA5, 17 PA4, 18 PA3, 19 PA2, 20 PA1, 21 PA0, 22 !RD!/E/!DS, 23 AD0, 24 AD1, 25 AD2, 26 AD3, 27 AD4, 28 AD5, 29 AD6, 30 AD7, 31 AD8, 32 AD9, 33 AD10, 35 AD11, 36 AD12, 37 AD13, 38 AD14, 39 AD15, 40 PC0, 41 PC1, 42 PC2, 43 A19/!CSI
part B pins: 12 GND (power), 34 GND@1 (power), 44 VCC (power)

## PSD303LL
designator IC?, comment WAFER SCALE INTEGRATION
OC_FARNELL: unknown; OC_NEWARK: unknown
footprint CLDCC44
part A pins: 1 !BHE!/!PSEN, 2 !WR!/VPP, 3 !RESET, 4 PB7 (out), 5 PB6 (out), 6 PB5 (out), 7 PB4 (out), 8 PB3 (out), 9 PB2 (out), 10 PB1 (out), 11 PB0 (out), 13 ALE (out), 14 PA7, 15 PA6, 16 PA5, 17 PA4, 18 PA3, 19 PA2, 20 PA1, 21 PA0, 22 !RD!/E/!DS, 23 AD0, 24 AD1, 25 AD2, 26 AD3, 27 AD4, 28 AD5, 29 AD6, 30 AD7, 31 AD8, 32 AD9, 33 AD10, 35 AD11, 36 AD12, 37 AD13, 38 AD14, 39 AD15, 40 PC0, 41 PC1, 42 PC2, 43 A19/!CSI
part B pins: 12 GND (power), 34 GND@1 (power), 44 VCC (power)

## PSD303LU
designator IC?, comment WAFER SCALE INTEGRATION
OC_FARNELL: unknown; OC_NEWARK: unknown
footprint TQFP44
part A pins: 1 PB4 (out), 2 PB3 (out), 3 PB2 (out), 4 PB1 (out), 5 PB0 (out), 7 ALE (out), 8 PA7, 9 PA6, 10 PA5, 11 PA4, 12 PA3, 13 PA2, 14 PA1, 15 PA0, 16 !RD!/E/!DS, 17 AD0, 18 AD1, 19 AD2, 20 AD3, 21 AD4, 22 AD5, 23 AD6, 24 AD7, 25 AD8, 26 AD9, 27 AD10, 29 AD11, 30 AD12, 31 AD13, 32 AD14, 33 AD15, 34 PC0, 35 PC1, 36 PC2, 37 A19/!CSI, 39 !BHE!/!PSEN, 40 !WR!/VPP, 41 !RESET, 42 PB7 (out), 43 PB6 (out), 44 PB5 (out)
part B pins: 6 GND (power), 28 GND@1 (power), 38 VCC (power)

## PSD303U
designator IC?, comment WAFER SCALE INTEGRATION
OC_FARNELL: unknown; OC_NEWARK: unknown
footprint TQFP44
part A pins: 1 PB4 (out), 2 PB3 (out), 3 PB2 (out), 4 PB1 (out), 5 PB0 (out), 7 ALE (out), 8 PA7, 9 PA6, 10 PA5, 11 PA4, 12 PA3, 13 PA2, 14 PA1, 15 PA0, 16 !RD!/E/!DS, 17 AD0, 18 AD1, 19 AD2, 20 AD3, 21 AD4, 22 AD5, 23 AD6, 24 AD7, 25 AD8, 26 AD9, 27 AD10, 29 AD11, 30 AD12, 31 AD13, 32 AD14, 33 AD15, 34 PC0, 35 PC1, 36 PC2, 37 A19/!CSI, 39 !BHE!/!PSEN, 40 !WR!/VPP, 41 RESET, 42 PB7 (out), 43 PB6 (out), 44 PB5 (out)
part B pins: 6 GND (power), 28 GND@1 (power), 38 VCC (power)

## PSD303X
designator IC?, comment WAFER SCALE INTEGRATION
OC_FARNELL: 1270468; OC_NEWARK: unknown
footprint CPGA44
part A pins: A2 PB5 (out), A3 PB7 (out), A4 !WR!/VPP, A5 !BHE!/!PSEN, A6 A19/!CSI, A7 PC1, B1 PB3 (out), B2 PB4 (out), B3 PB6 (out), B4 RESET, B6 PC2, B7 PC0, B8 AD15, C1 PB1 (out), C2 PB2 (out), C7 AD14, C8 AD13, D2 PB0 (out), D7 AD12, D8 AD11, E1 ALE (out), E2 PA7, E7 AD10, F1 PA6, F2 PA5, F7 AD8, F8 AD9, G1 PA4, G2 PA3, G3 PA1, G4 !RD!/E/!DS, G5 AD2, G6 AD4, G7 AD6, G8 AD7, H2 PA2, H3 PA0, H4 AD0, H5 AD1, H6 AD3, H7 AD5
part B pins: B5 VCC (power), D1 GND (power), E8 GND@1 (power)

## PSD304RJ
designator IC?, comment WAFER SCALE INTEGRATION
OC_FARNELL: unknown; OC_NEWARK: unknown
footprint PLDCC44
part A pins: 1 !BHE!/!PSEN, 2 !WR!/VPP, 3 RESET, 4 PB7 (out), 5 PB6 (out), 6 PB5 (out), 7 PB4 (out), 8 PB3 (out), 9 PB2 (out), 10 PB1 (out), 11 PB0 (out), 13 ALE (out), 14 PA7, 15 PA6, 16 PA5, 17 PA4, 18 PA3, 19 PA2, 20 PA1, 21 PA0, 22 !RD!/E/!DS, 23 AD0, 24 AD1, 25 AD2, 26 AD3, 27 AD4, 28 AD5, 29 AD6, 30 AD7, 31 AD8, 32 AD9, 33 AD10, 35 AD11, 36 AD12, 37 AD13, 38 AD14, 39 AD15, 40 PC0, 41 PC1, 42 PC2, 43 A19/!CSI
part B pins: 12 GND (power), 34 GND@1 (power), 44 VCC (power)

## PSD304RL
designator IC?, comment WAFER SCALE INTEGRATION
OC_FARNELL: unknown; OC_NEWARK: unknown
footprint CLDCC44
part A pins: 1 !BHE!/!PSEN, 2 !WR!/VPP, 3 RESET, 4 PB7 (out), 5 PB6 (out), 6 PB5 (out), 7 PB4 (out), 8 PB3 (out), 9 PB2 (out), 10 PB1 (out), 11 PB0 (out), 13 ALE (out), 14 PA7, 15 PA6, 16 PA5, 17 PA4, 18 PA3, 19 PA2, 20 PA1, 21 PA0, 22 !RD!/E/!DS, 23 AD0, 24 AD1, 25 AD2, 26 AD3, 27 AD4, 28 AD5, 29 AD6, 30 AD7, 31 AD8, 32 AD9, 33 AD10, 35 AD11, 36 AD12, 37 AD13, 38 AD14, 39 AD15, 40 PC0, 41 PC1, 42 PC2, 43 A19/!CSI
part B pins: 12 GND (power), 34 GND@1 (power), 44 VCC (power)

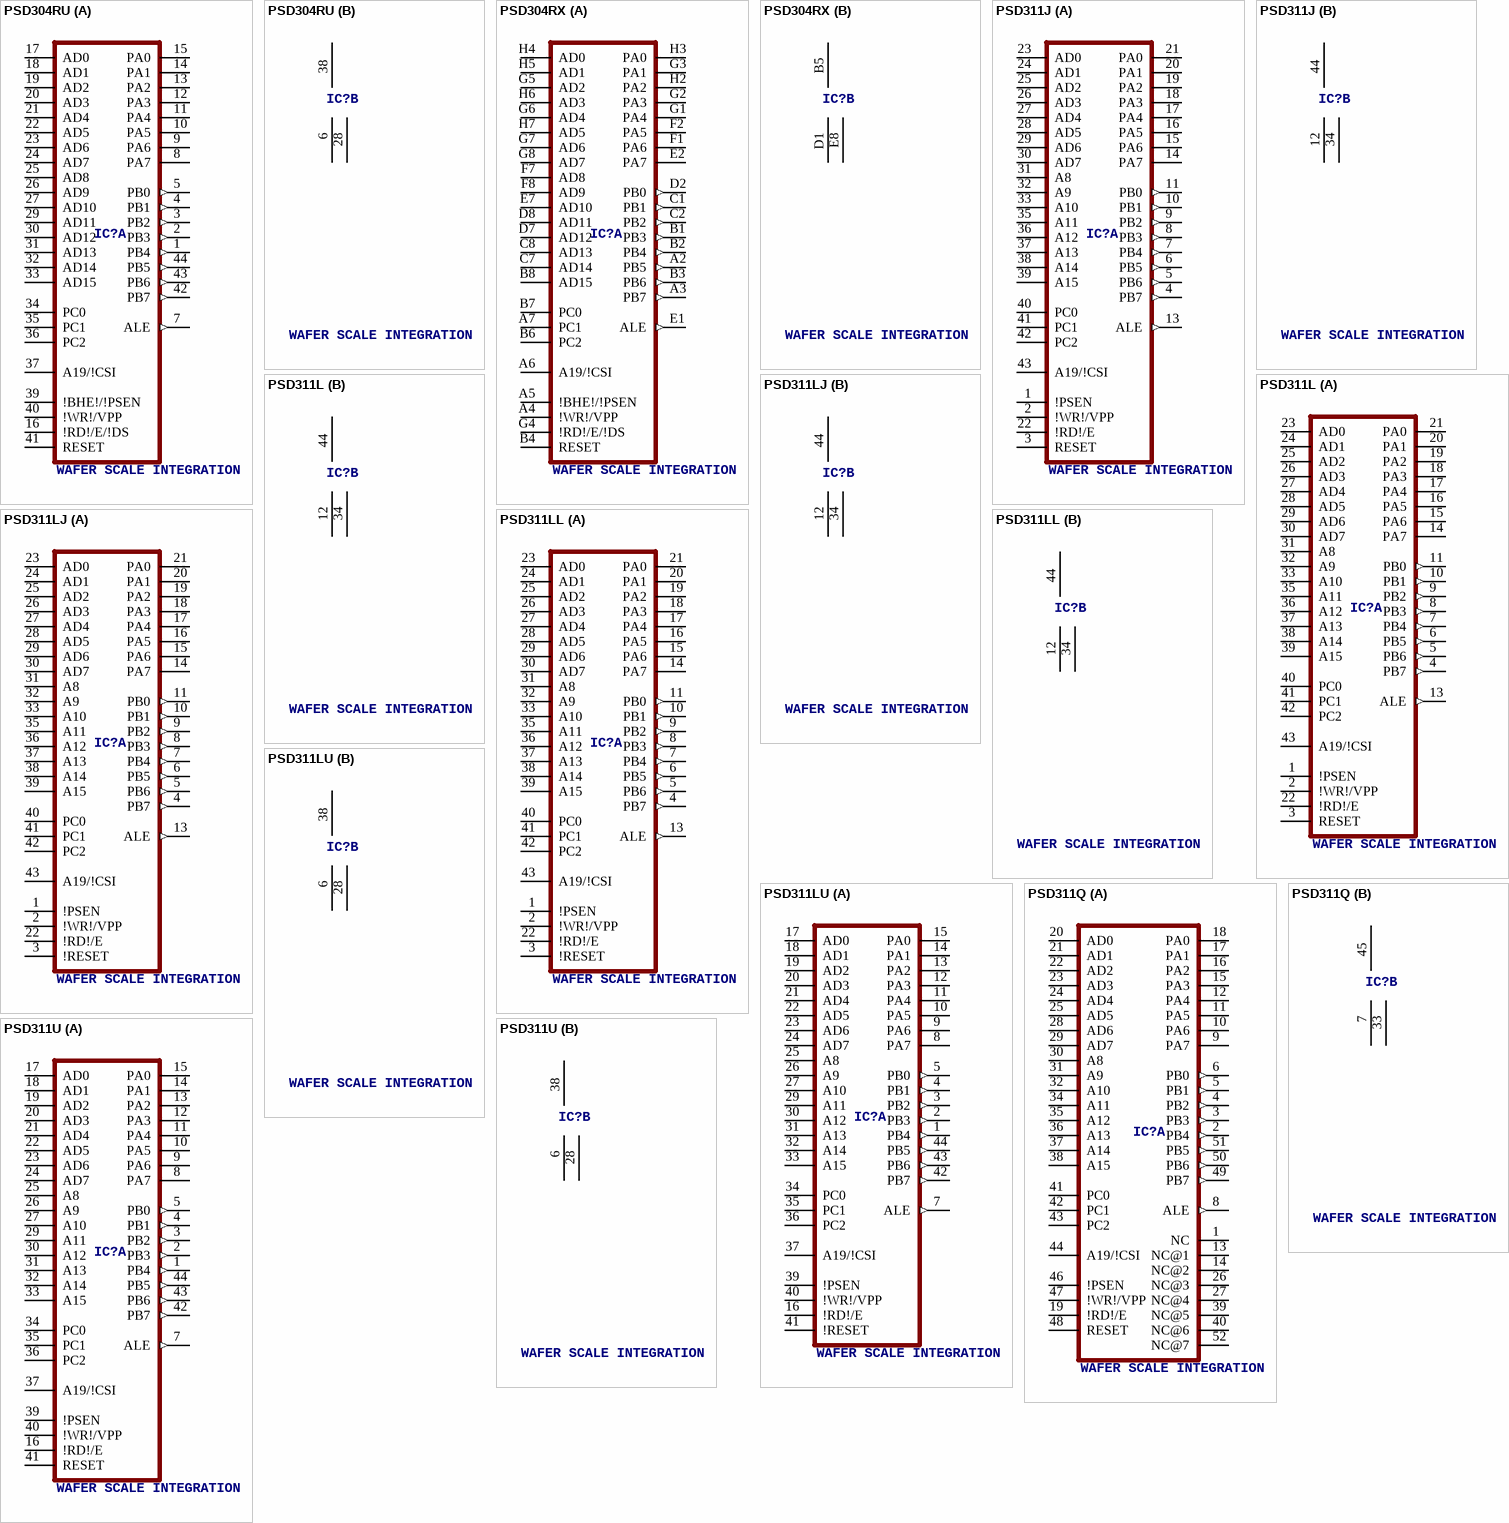
[diagram p4: symbols PSD304RU to PSD311U]

## PSD304RU
designator IC?, comment WAFER SCALE INTEGRATION
OC_FARNELL: unknown; OC_NEWARK: unknown
footprint TQFP44
part A pins: 1 PB4 (out), 2 PB3 (out), 3 PB2 (out), 4 PB1 (out), 5 PB0 (out), 7 ALE (out), 8 PA7, 9 PA6, 10 PA5, 11 PA4, 12 PA3, 13 PA2, 14 PA1, 15 PA0, 16 !RD!/E/!DS, 17 AD0, 18 AD1, 19 AD2, 20 AD3, 21 AD4, 22 AD5, 23 AD6, 24 AD7, 25 AD8, 26 AD9, 27 AD10, 29 AD11, 30 AD12, 31 AD13, 32 AD14, 33 AD15, 34 PC0, 35 PC1, 36 PC2, 37 A19/!CSI, 39 !BHE!/!PSEN, 40 !WR!/VPP, 41 RESET, 42 PB7 (out), 43 PB6 (out), 44 PB5 (out)
part B pins: 6 GND (power), 28 GND@1 (power), 38 VCC (power)

## PSD304RX
designator IC?, comment WAFER SCALE INTEGRATION
OC_FARNELL: unknown; OC_NEWARK: unknown
footprint CPGA44
part A pins: A2 PB5 (out), A3 PB7 (out), A4 !WR!/VPP, A5 !BHE!/!PSEN, A6 A19/!CSI, A7 PC1, B1 PB3 (out), B2 PB4 (out), B3 PB6 (out), B4 RESET, B6 PC2, B7 PC0, B8 AD15, C1 PB1 (out), C2 PB2 (out), C7 AD14, C8 AD13, D2 PB0 (out), D7 AD12, D8 AD11, E1 ALE (out), E2 PA7, E7 AD10, F1 PA6, F2 PA5, F7 AD8, F8 AD9, G1 PA4, G2 PA3, G3 PA1, G4 !RD!/E/!DS, G5 AD2, G6 AD4, G7 AD6, G8 AD7, H2 PA2, H3 PA0, H4 AD0, H5 AD1, H6 AD3, H7 AD5
part B pins: B5 VCC (power), D1 GND (power), E8 GND@1 (power)

## PSD311J
designator IC?, comment WAFER SCALE INTEGRATION
MPN: PSD311B-90JI; OC_FARNELL: unknown; OC_NEWARK: 56P9966
footprint PLDCC44
part A pins: 1 !PSEN, 2 !WR!/VPP, 3 RESET, 4 PB7 (out), 5 PB6 (out), 6 PB5 (out), 7 PB4 (out), 8 PB3 (out), 9 PB2 (out), 10 PB1 (out), 11 PB0 (out), 13 ALE (out), 14 PA7, 15 PA6, 16 PA5, 17 PA4, 18 PA3, 19 PA2, 20 PA1, 21 PA0, 22 !RD!/E, 23 AD0, 24 AD1, 25 AD2, 26 AD3, 27 AD4, 28 AD5, 29 AD6, 30 AD7, 31 A8, 32 A9, 33 A10, 35 A11, 36 A12, 37 A13, 38 A14, 39 A15, 40 PC0, 41 PC1, 42 PC2, 43 A19/!CSI
part B pins: 12 GND (power), 34 GND@1 (power), 44 VCC (power)

## PSD311L
designator IC?, comment WAFER SCALE INTEGRATION
OC_FARNELL: unknown; OC_NEWARK: unknown
footprint CLDCC44
part A pins: 1 !PSEN, 2 !WR!/VPP, 3 RESET, 4 PB7 (out), 5 PB6 (out), 6 PB5 (out), 7 PB4 (out), 8 PB3 (out), 9 PB2 (out), 10 PB1 (out), 11 PB0 (out), 13 ALE (out), 14 PA7, 15 PA6, 16 PA5, 17 PA4, 18 PA3, 19 PA2, 20 PA1, 21 PA0, 22 !RD!/E, 23 AD0, 24 AD1, 25 AD2, 26 AD3, 27 AD4, 28 AD5, 29 AD6, 30 AD7, 31 A8, 32 A9, 33 A10, 35 A11, 36 A12, 37 A13, 38 A14, 39 A15, 40 PC0, 41 PC1, 42 PC2, 43 A19/!CSI
part B pins: 12 GND (power), 34 GND@1 (power), 44 VCC (power)

## PSD311LJ
designator IC?, comment WAFER SCALE INTEGRATION
OC_FARNELL: unknown; OC_NEWARK: unknown
footprint PLDCC44
part A pins: 1 !PSEN, 2 !WR!/VPP, 3 !RESET, 4 PB7 (out), 5 PB6 (out), 6 PB5 (out), 7 PB4 (out), 8 PB3 (out), 9 PB2 (out), 10 PB1 (out), 11 PB0 (out), 13 ALE (out), 14 PA7, 15 PA6, 16 PA5, 17 PA4, 18 PA3, 19 PA2, 20 PA1, 21 PA0, 22 !RD!/E, 23 AD0, 24 AD1, 25 AD2, 26 AD3, 27 AD4, 28 AD5, 29 AD6, 30 AD7, 31 A8, 32 A9, 33 A10, 35 A11, 36 A12, 37 A13, 38 A14, 39 A15, 40 PC0, 41 PC1, 42 PC2, 43 A19/!CSI
part B pins: 12 GND (power), 34 GND@1 (power), 44 VCC (power)

## PSD311LL
designator IC?, comment WAFER SCALE INTEGRATION
OC_FARNELL: unknown; OC_NEWARK: unknown
footprint CLDCC44
part A pins: 1 !PSEN, 2 !WR!/VPP, 3 !RESET, 4 PB7 (out), 5 PB6 (out), 6 PB5 (out), 7 PB4 (out), 8 PB3 (out), 9 PB2 (out), 10 PB1 (out), 11 PB0 (out), 13 ALE (out), 14 PA7, 15 PA6, 16 PA5, 17 PA4, 18 PA3, 19 PA2, 20 PA1, 21 PA0, 22 !RD!/E, 23 AD0, 24 AD1, 25 AD2, 26 AD3, 27 AD4, 28 AD5, 29 AD6, 30 AD7, 31 A8, 32 A9, 33 A10, 35 A11, 36 A12, 37 A13, 38 A14, 39 A15, 40 PC0, 41 PC1, 42 PC2, 43 A19/!CSI
part B pins: 12 GND (power), 34 GND@1 (power), 44 VCC (power)

## PSD311LU
designator IC?, comment WAFER SCALE INTEGRATION
MPN: PSD311B-70U; OC_FARNELL: unknown; OC_NEWARK: 37M5740
footprint TQFP44
part A pins: 1 PB4 (out), 2 PB3 (out), 3 PB2 (out), 4 PB1 (out), 5 PB0 (out), 7 ALE (out), 8 PA7, 9 PA6, 10 PA5, 11 PA4, 12 PA3, 13 PA2, 14 PA1, 15 PA0, 16 !RD!/E, 17 AD0, 18 AD1, 19 AD2, 20 AD3, 21 AD4, 22 AD5, 23 AD6, 24 AD7, 25 A8, 26 A9, 27 A10, 29 A11, 30 A12, 31 A13, 32 A14, 33 A15, 34 PC0, 35 PC1, 36 PC2, 37 A19/!CSI, 39 !PSEN, 40 !WR!/VPP, 41 !RESET, 42 PB7 (out), 43 PB6 (out), 44 PB5 (out)
part B pins: 6 GND (power), 28 GND@1 (power), 38 VCC (power)

## PSD311Q
designator IC?, comment WAFER SCALE INTEGRATION
OC_FARNELL: unknown; OC_NEWARK: unknown
footprint PQFP52
part A pins: 1 NC, 2 PB4 (out), 3 PB3 (out), 4 PB2 (out), 5 PB1 (out), 6 PB0 (out), 8 ALE (out), 9 PA7, 10 PA6, 11 PA5, 12 PA4, 13 NC@1, 14 NC@2, 15 PA3, 16 PA2, 17 PA1, 18 PA0, 19 !RD!/E, 20 AD0, 21 AD1, 22 AD2, 23 AD3, 24 AD4, 25 AD5, 26 NC@3, 27 NC@4, 28 AD6, 29 AD7, 30 A8, 31 A9, 32 A10, 34 A11, 35 A12, 36 A13, 37 A14, 38 A15, 39 NC@5, 40 NC@6, 41 PC0, 42 PC1, 43 PC2, 44 A19/!CSI, 46 !PSEN, 47 !WR!/VPP, 48 RESET, 49 PB7 (out), 50 PB6 (out), 51 PB5 (out), 52 NC@7
part B pins: 7 GND (power), 33 GND@1 (power), 45 VCC (power)

## PSD311U
designator IC?, comment WAFER SCALE INTEGRATION
OC_FARNELL: unknown; OC_NEWARK: unknown
footprint TQFP44
part A pins: 1 PB4 (out), 2 PB3 (out), 3 PB2 (out), 4 PB1 (out), 5 PB0 (out), 7 ALE (out), 8 PA7, 9 PA6, 10 PA5, 11 PA4, 12 PA3, 13 PA2, 14 PA1, 15 PA0, 16 !RD!/E, 17 AD0, 18 AD1, 19 AD2, 20 AD3, 21 AD4, 22 AD5, 23 AD6, 24 AD7, 25 A8, 26 A9, 27 A10, 29 A11, 30 A12, 31 A13, 32 A14, 33 A15, 34 PC0, 35 PC1, 36 PC2, 37 A19/!CSI, 39 !PSEN, 40 !WR!/VPP, 41 RESET, 42 PB7 (out), 43 PB6 (out), 44 PB5 (out)
part B pins: 6 GND (power), 28 GND@1 (power), 38 VCC (power)

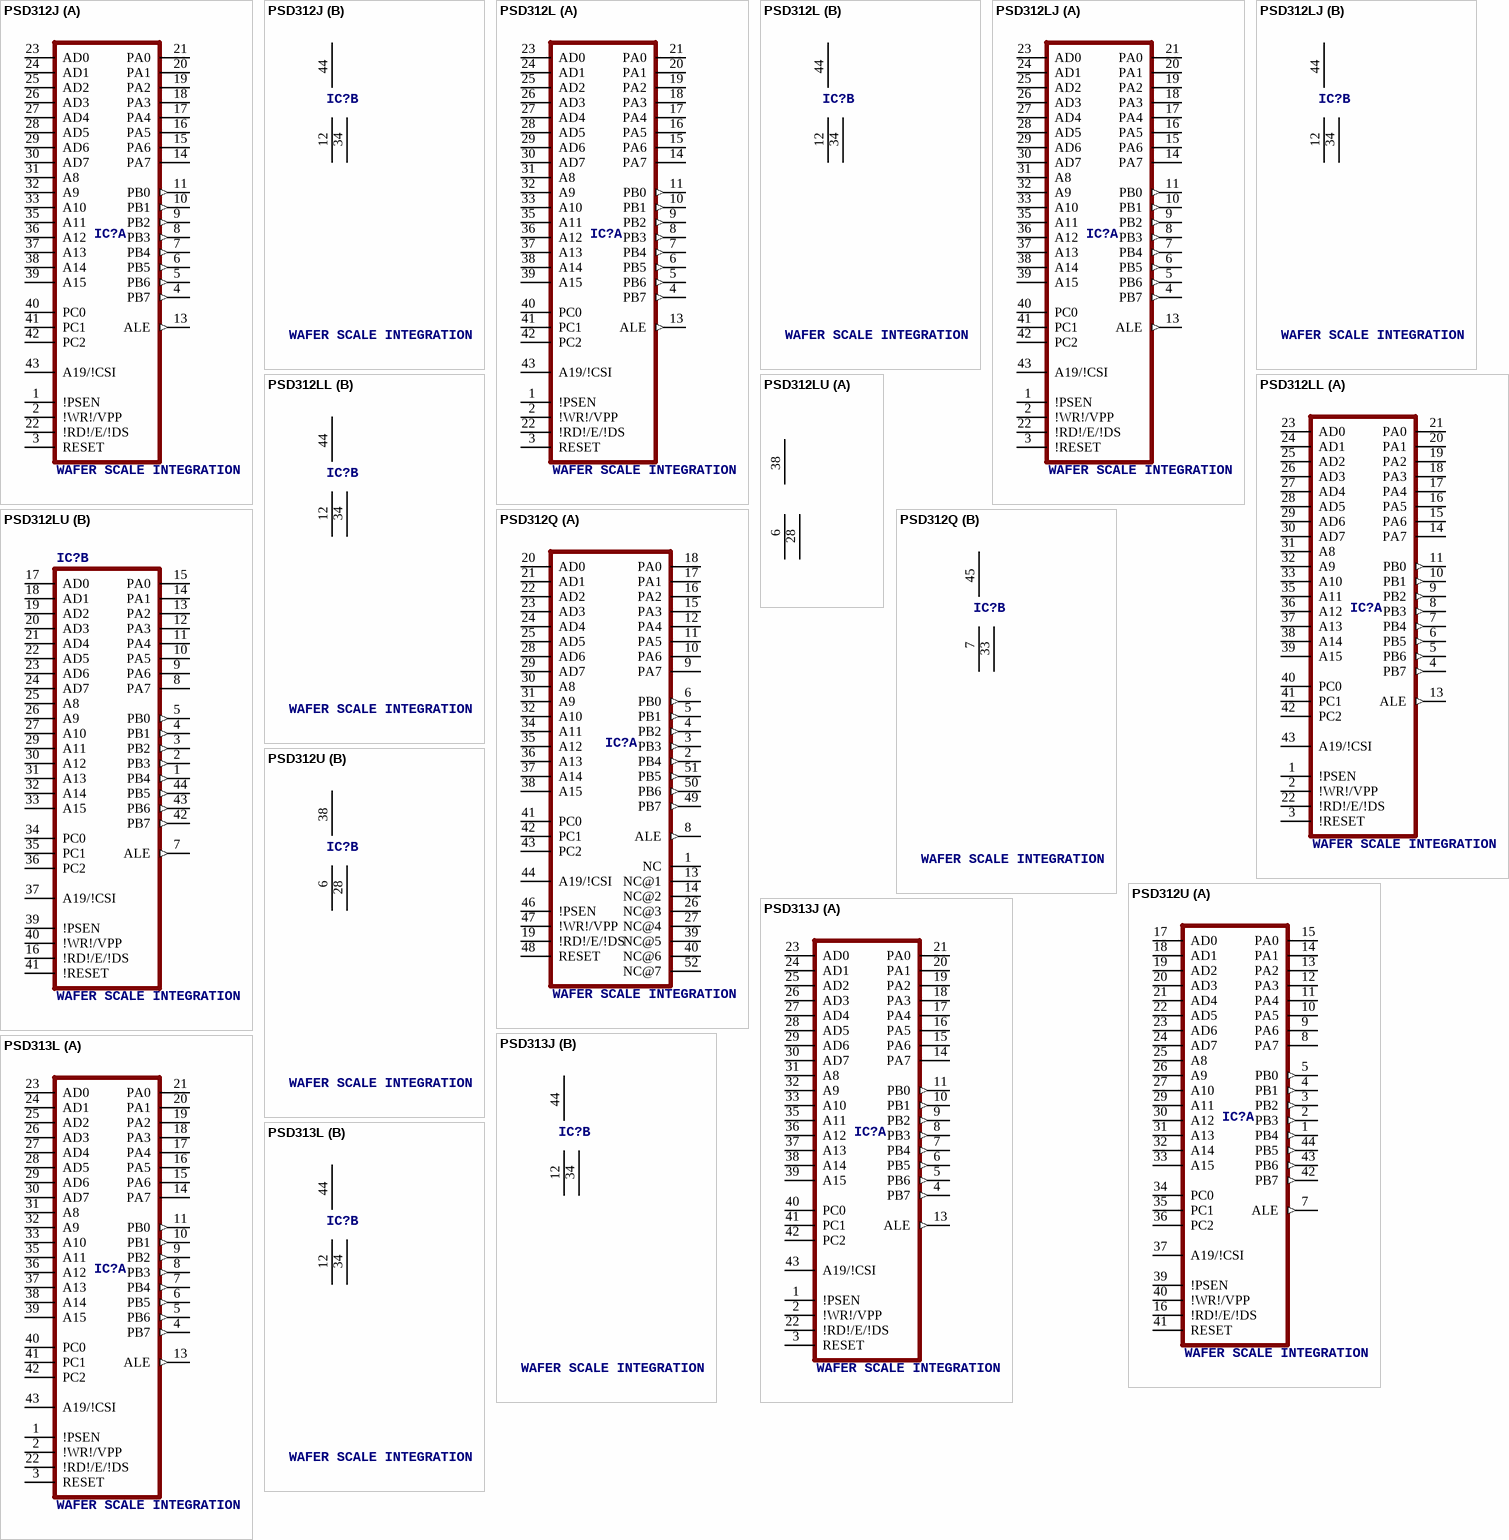
[diagram p5: symbols PSD312J to PSD313L]

## PSD312J
designator IC?, comment WAFER SCALE INTEGRATION
OC_FARNELL: unknown; OC_NEWARK: unknown
footprint PLDCC44
part A pins: 1 !PSEN, 2 !WR!/VPP, 3 RESET, 4 PB7 (out), 5 PB6 (out), 6 PB5 (out), 7 PB4 (out), 8 PB3 (out), 9 PB2 (out), 10 PB1 (out), 11 PB0 (out), 13 ALE (out), 14 PA7, 15 PA6, 16 PA5, 17 PA4, 18 PA3, 19 PA2, 20 PA1, 21 PA0, 22 !RD!/E/!DS, 23 AD0, 24 AD1, 25 AD2, 26 AD3, 27 AD4, 28 AD5, 29 AD6, 30 AD7, 31 A8, 32 A9, 33 A10, 35 A11, 36 A12, 37 A13, 38 A14, 39 A15, 40 PC0, 41 PC1, 42 PC2, 43 A19/!CSI
part B pins: 12 GND (power), 34 GND@1 (power), 44 VCC (power)

## PSD312L
designator IC?, comment WAFER SCALE INTEGRATION
OC_FARNELL: unknown; OC_NEWARK: unknown
footprint CLDCC44
part A pins: 1 !PSEN, 2 !WR!/VPP, 3 RESET, 4 PB7 (out), 5 PB6 (out), 6 PB5 (out), 7 PB4 (out), 8 PB3 (out), 9 PB2 (out), 10 PB1 (out), 11 PB0 (out), 13 ALE (out), 14 PA7, 15 PA6, 16 PA5, 17 PA4, 18 PA3, 19 PA2, 20 PA1, 21 PA0, 22 !RD!/E/!DS, 23 AD0, 24 AD1, 25 AD2, 26 AD3, 27 AD4, 28 AD5, 29 AD6, 30 AD7, 31 A8, 32 A9, 33 A10, 35 A11, 36 A12, 37 A13, 38 A14, 39 A15, 40 PC0, 41 PC1, 42 PC2, 43 A19/!CSI
part B pins: 12 GND (power), 34 GND@1 (power), 44 VCC (power)

## PSD312LJ
designator IC?, comment WAFER SCALE INTEGRATION
OC_FARNELL: unknown; OC_NEWARK: unknown
footprint PLDCC44
part A pins: 1 !PSEN, 2 !WR!/VPP, 3 !RESET, 4 PB7 (out), 5 PB6 (out), 6 PB5 (out), 7 PB4 (out), 8 PB3 (out), 9 PB2 (out), 10 PB1 (out), 11 PB0 (out), 13 ALE (out), 14 PA7, 15 PA6, 16 PA5, 17 PA4, 18 PA3, 19 PA2, 20 PA1, 21 PA0, 22 !RD!/E/!DS, 23 AD0, 24 AD1, 25 AD2, 26 AD3, 27 AD4, 28 AD5, 29 AD6, 30 AD7, 31 A8, 32 A9, 33 A10, 35 A11, 36 A12, 37 A13, 38 A14, 39 A15, 40 PC0, 41 PC1, 42 PC2, 43 A19/!CSI
part B pins: 12 GND (power), 34 GND@1 (power), 44 VCC (power)

## PSD312LL
designator IC?, comment WAFER SCALE INTEGRATION
OC_FARNELL: unknown; OC_NEWARK: unknown
footprint CLDCC44
part A pins: 1 !PSEN, 2 !WR!/VPP, 3 !RESET, 4 PB7 (out), 5 PB6 (out), 6 PB5 (out), 7 PB4 (out), 8 PB3 (out), 9 PB2 (out), 10 PB1 (out), 11 PB0 (out), 13 ALE (out), 14 PA7, 15 PA6, 16 PA5, 17 PA4, 18 PA3, 19 PA2, 20 PA1, 21 PA0, 22 !RD!/E/!DS, 23 AD0, 24 AD1, 25 AD2, 26 AD3, 27 AD4, 28 AD5, 29 AD6, 30 AD7, 31 A8, 32 A9, 33 A10, 35 A11, 36 A12, 37 A13, 38 A14, 39 A15, 40 PC0, 41 PC1, 42 PC2, 43 A19/!CSI
part B pins: 12 GND (power), 34 GND@1 (power), 44 VCC (power)

## PSD312LU
designator IC?, comment WAFER SCALE INTEGRATION
OC_FARNELL: unknown; OC_NEWARK: unknown
footprint TQFP44
part A pins: 6 GND (power), 28 GND@1 (power), 38 VCC (power)
part B pins: 1 PB4 (out), 2 PB3 (out), 3 PB2 (out), 4 PB1 (out), 5 PB0 (out), 7 ALE (out), 8 PA7, 9 PA6, 10 PA5, 11 PA4, 12 PA3, 13 PA2, 14 PA1, 15 PA0, 16 !RD!/E/!DS, 17 AD0, 18 AD1, 19 AD2, 20 AD3, 21 AD4, 22 AD5, 23 AD6, 24 AD7, 25 A8, 26 A9, 27 A10, 29 A11, 30 A12, 31 A13, 32 A14, 33 A15, 34 PC0, 35 PC1, 36 PC2, 37 A19/!CSI, 39 !PSEN, 40 !WR!/VPP, 41 !RESET, 42 PB7 (out), 43 PB6 (out), 44 PB5 (out)

## PSD312Q
designator IC?, comment WAFER SCALE INTEGRATION
OC_FARNELL: unknown; OC_NEWARK: unknown
footprint PQFP52
part A pins: 1 NC, 2 PB4 (out), 3 PB3 (out), 4 PB2 (out), 5 PB1 (out), 6 PB0 (out), 8 ALE (out), 9 PA7, 10 PA6, 11 PA5, 12 PA4, 13 NC@1, 14 NC@2, 15 PA3, 16 PA2, 17 PA1, 18 PA0, 19 !RD!/E/!DS, 20 AD0, 21 AD1, 22 AD2, 23 AD3, 24 AD4, 25 AD5, 26 NC@3, 27 NC@4, 28 AD6, 29 AD7, 30 A8, 31 A9, 32 A10, 34 A11, 35 A12, 36 A13, 37 A14, 38 A15, 39 NC@5, 40 NC@6, 41 PC0, 42 PC1, 43 PC2, 44 A19/!CSI, 46 !PSEN, 47 !WR!/VPP, 48 RESET, 49 PB7 (out), 50 PB6 (out), 51 PB5 (out), 52 NC@7
part B pins: 7 GND (power), 33 GND@1 (power), 45 VCC (power)

## PSD312U
designator IC?, comment WAFER SCALE INTEGRATION
OC_FARNELL: unknown; OC_NEWARK: unknown
footprint TQFP44
part A pins: 1 PB4 (out), 2 PB3 (out), 3 PB2 (out), 4 PB1 (out), 5 PB0 (out), 7 ALE (out), 8 PA7, 9 PA6, 10 PA5, 11 PA4, 12 PA3, 13 PA2, 14 PA1, 15 PA0, 16 !RD!/E/!DS, 17 AD0, 18 AD1, 19 AD2, 20 AD3, 21 AD4, 22 AD5, 23 AD6, 24 AD7, 25 A8, 26 A9, 27 A10, 29 A11, 30 A12, 31 A13, 32 A14, 33 A15, 34 PC0, 35 PC1, 36 PC2, 37 A19/!CSI, 39 !PSEN, 40 !WR!/VPP, 41 RESET, 42 PB7 (out), 43 PB6 (out), 44 PB5 (out)
part B pins: 6 GND (power), 28 GND@1 (power), 38 VCC (power)

## PSD313J
designator IC?, comment WAFER SCALE INTEGRATION
MPN: PSD313B-90JI; OC_FARNELL: unknown; OC_NEWARK: 56P9971
footprint PLDCC44
part A pins: 1 !PSEN, 2 !WR!/VPP, 3 RESET, 4 PB7 (out), 5 PB6 (out), 6 PB5 (out), 7 PB4 (out), 8 PB3 (out), 9 PB2 (out), 10 PB1 (out), 11 PB0 (out), 13 ALE (out), 14 PA7, 15 PA6, 16 PA5, 17 PA4, 18 PA3, 19 PA2, 20 PA1, 21 PA0, 22 !RD!/E/!DS, 23 AD0, 24 AD1, 25 AD2, 26 AD3, 27 AD4, 28 AD5, 29 AD6, 30 AD7, 31 A8, 32 A9, 33 A10, 35 A11, 36 A12, 37 A13, 38 A14, 39 A15, 40 PC0, 41 PC1, 42 PC2, 43 A19/!CSI
part B pins: 12 GND (power), 34 GND@1 (power), 44 VCC (power)

## PSD313L
designator IC?, comment WAFER SCALE INTEGRATION
OC_FARNELL: unknown; OC_NEWARK: unknown
footprint CLDCC44
part A pins: 1 !PSEN, 2 !WR!/VPP, 3 RESET, 4 PB7 (out), 5 PB6 (out), 6 PB5 (out), 7 PB4 (out), 8 PB3 (out), 9 PB2 (out), 10 PB1 (out), 11 PB0 (out), 13 ALE (out), 14 PA7, 15 PA6, 16 PA5, 17 PA4, 18 PA3, 19 PA2, 20 PA1, 21 PA0, 22 !RD!/E/!DS, 23 AD0, 24 AD1, 25 AD2, 26 AD3, 27 AD4, 28 AD5, 29 AD6, 30 AD7, 31 A8, 32 A9, 33 A10, 35 A11, 36 A12, 37 A13, 38 A14, 39 A15, 40 PC0, 41 PC1, 42 PC2, 43 A19/!CSI
part B pins: 12 GND (power), 34 GND@1 (power), 44 VCC (power)

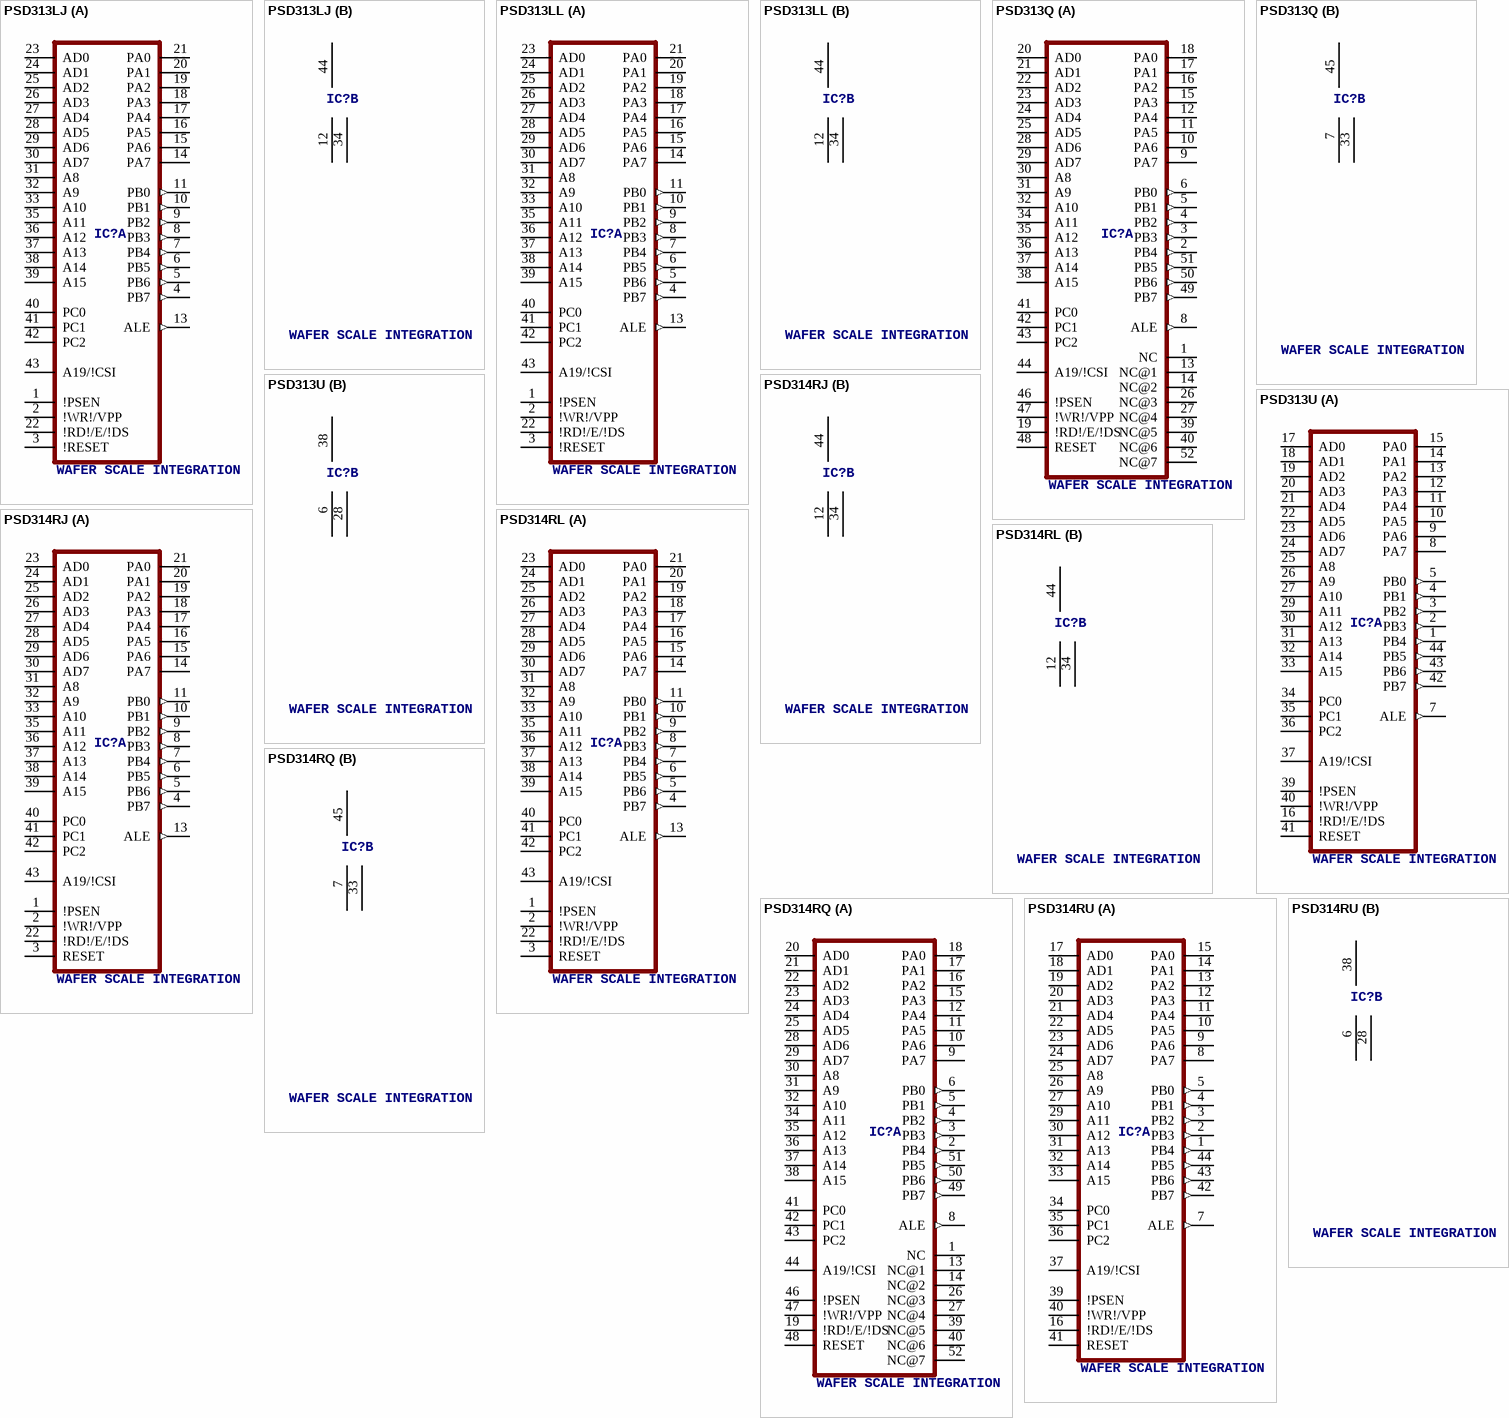
[diagram p6: symbols PSD313LJ to PSD314RU]

## PSD313LJ
designator IC?, comment WAFER SCALE INTEGRATION
OC_FARNELL: unknown; OC_NEWARK: unknown
footprint PLDCC44
part A pins: 1 !PSEN, 2 !WR!/VPP, 3 !RESET, 4 PB7 (out), 5 PB6 (out), 6 PB5 (out), 7 PB4 (out), 8 PB3 (out), 9 PB2 (out), 10 PB1 (out), 11 PB0 (out), 13 ALE (out), 14 PA7, 15 PA6, 16 PA5, 17 PA4, 18 PA3, 19 PA2, 20 PA1, 21 PA0, 22 !RD!/E/!DS, 23 AD0, 24 AD1, 25 AD2, 26 AD3, 27 AD4, 28 AD5, 29 AD6, 30 AD7, 31 A8, 32 A9, 33 A10, 35 A11, 36 A12, 37 A13, 38 A14, 39 A15, 40 PC0, 41 PC1, 42 PC2, 43 A19/!CSI
part B pins: 12 GND (power), 34 GND@1 (power), 44 VCC (power)

## PSD313LL
designator IC?, comment WAFER SCALE INTEGRATION
OC_FARNELL: unknown; OC_NEWARK: unknown
footprint CLDCC44
part A pins: 1 !PSEN, 2 !WR!/VPP, 3 !RESET, 4 PB7 (out), 5 PB6 (out), 6 PB5 (out), 7 PB4 (out), 8 PB3 (out), 9 PB2 (out), 10 PB1 (out), 11 PB0 (out), 13 ALE (out), 14 PA7, 15 PA6, 16 PA5, 17 PA4, 18 PA3, 19 PA2, 20 PA1, 21 PA0, 22 !RD!/E/!DS, 23 AD0, 24 AD1, 25 AD2, 26 AD3, 27 AD4, 28 AD5, 29 AD6, 30 AD7, 31 A8, 32 A9, 33 A10, 35 A11, 36 A12, 37 A13, 38 A14, 39 A15, 40 PC0, 41 PC1, 42 PC2, 43 A19/!CSI
part B pins: 12 GND (power), 34 GND@1 (power), 44 VCC (power)

## PSD313Q
designator IC?, comment WAFER SCALE INTEGRATION
OC_FARNELL: unknown; OC_NEWARK: unknown
footprint PQFP52
part A pins: 1 NC, 2 PB4 (out), 3 PB3 (out), 4 PB2 (out), 5 PB1 (out), 6 PB0 (out), 8 ALE (out), 9 PA7, 10 PA6, 11 PA5, 12 PA4, 13 NC@1, 14 NC@2, 15 PA3, 16 PA2, 17 PA1, 18 PA0, 19 !RD!/E/!DS, 20 AD0, 21 AD1, 22 AD2, 23 AD3, 24 AD4, 25 AD5, 26 NC@3, 27 NC@4, 28 AD6, 29 AD7, 30 A8, 31 A9, 32 A10, 34 A11, 35 A12, 36 A13, 37 A14, 38 A15, 39 NC@5, 40 NC@6, 41 PC0, 42 PC1, 43 PC2, 44 A19/!CSI, 46 !PSEN, 47 !WR!/VPP, 48 RESET, 49 PB7 (out), 50 PB6 (out), 51 PB5 (out), 52 NC@7
part B pins: 7 GND (power), 33 GND@1 (power), 45 VCC (power)

## PSD313U
designator IC?, comment WAFER SCALE INTEGRATION
OC_FARNELL: unknown; OC_NEWARK: unknown
footprint TQFP44
part A pins: 1 PB4 (out), 2 PB3 (out), 3 PB2 (out), 4 PB1 (out), 5 PB0 (out), 7 ALE (out), 8 PA7, 9 PA6, 10 PA5, 11 PA4, 12 PA3, 13 PA2, 14 PA1, 15 PA0, 16 !RD!/E/!DS, 17 AD0, 18 AD1, 19 AD2, 20 AD3, 21 AD4, 22 AD5, 23 AD6, 24 AD7, 25 A8, 26 A9, 27 A10, 29 A11, 30 A12, 31 A13, 32 A14, 33 A15, 34 PC0, 35 PC1, 36 PC2, 37 A19/!CSI, 39 !PSEN, 40 !WR!/VPP, 41 RESET, 42 PB7 (out), 43 PB6 (out), 44 PB5 (out)
part B pins: 6 GND (power), 28 GND@1 (power), 38 VCC (power)

## PSD314RJ
designator IC?, comment WAFER SCALE INTEGRATION
OC_FARNELL: unknown; OC_NEWARK: unknown
footprint PLDCC44
part A pins: 1 !PSEN, 2 !WR!/VPP, 3 RESET, 4 PB7 (out), 5 PB6 (out), 6 PB5 (out), 7 PB4 (out), 8 PB3 (out), 9 PB2 (out), 10 PB1 (out), 11 PB0 (out), 13 ALE (out), 14 PA7, 15 PA6, 16 PA5, 17 PA4, 18 PA3, 19 PA2, 20 PA1, 21 PA0, 22 !RD!/E/!DS, 23 AD0, 24 AD1, 25 AD2, 26 AD3, 27 AD4, 28 AD5, 29 AD6, 30 AD7, 31 A8, 32 A9, 33 A10, 35 A11, 36 A12, 37 A13, 38 A14, 39 A15, 40 PC0, 41 PC1, 42 PC2, 43 A19/!CSI
part B pins: 12 GND (power), 34 GND@1 (power), 44 VCC (power)

## PSD314RL
designator IC?, comment WAFER SCALE INTEGRATION
OC_FARNELL: unknown; OC_NEWARK: unknown
footprint CLDCC44
part A pins: 1 !PSEN, 2 !WR!/VPP, 3 RESET, 4 PB7 (out), 5 PB6 (out), 6 PB5 (out), 7 PB4 (out), 8 PB3 (out), 9 PB2 (out), 10 PB1 (out), 11 PB0 (out), 13 ALE (out), 14 PA7, 15 PA6, 16 PA5, 17 PA4, 18 PA3, 19 PA2, 20 PA1, 21 PA0, 22 !RD!/E/!DS, 23 AD0, 24 AD1, 25 AD2, 26 AD3, 27 AD4, 28 AD5, 29 AD6, 30 AD7, 31 A8, 32 A9, 33 A10, 35 A11, 36 A12, 37 A13, 38 A14, 39 A15, 40 PC0, 41 PC1, 42 PC2, 43 A19/!CSI
part B pins: 12 GND (power), 34 GND@1 (power), 44 VCC (power)

## PSD314RQ
designator IC?, comment WAFER SCALE INTEGRATION
OC_FARNELL: unknown; OC_NEWARK: unknown
footprint PQFP52
part A pins: 1 NC, 2 PB4 (out), 3 PB3 (out), 4 PB2 (out), 5 PB1 (out), 6 PB0 (out), 8 ALE (out), 9 PA7, 10 PA6, 11 PA5, 12 PA4, 13 NC@1, 14 NC@2, 15 PA3, 16 PA2, 17 PA1, 18 PA0, 19 !RD!/E/!DS, 20 AD0, 21 AD1, 22 AD2, 23 AD3, 24 AD4, 25 AD5, 26 NC@3, 27 NC@4, 28 AD6, 29 AD7, 30 A8, 31 A9, 32 A10, 34 A11, 35 A12, 36 A13, 37 A14, 38 A15, 39 NC@5, 40 NC@6, 41 PC0, 42 PC1, 43 PC2, 44 A19/!CSI, 46 !PSEN, 47 !WR!/VPP, 48 RESET, 49 PB7 (out), 50 PB6 (out), 51 PB5 (out), 52 NC@7
part B pins: 7 GND (power), 33 GND@1 (power), 45 VCC (power)

## PSD314RU
designator IC?, comment WAFER SCALE INTEGRATION
OC_FARNELL: unknown; OC_NEWARK: unknown
footprint TQFP44
part A pins: 1 PB4 (out), 2 PB3 (out), 3 PB2 (out), 4 PB1 (out), 5 PB0 (out), 7 ALE (out), 8 PA7, 9 PA6, 10 PA5, 11 PA4, 12 PA3, 13 PA2, 14 PA1, 15 PA0, 16 !RD!/E/!DS, 17 AD0, 18 AD1, 19 AD2, 20 AD3, 21 AD4, 22 AD5, 23 AD6, 24 AD7, 25 A8, 26 A9, 27 A10, 29 A11, 30 A12, 31 A13, 32 A14, 33 A15, 34 PC0, 35 PC1, 36 PC2, 37 A19/!CSI, 39 !PSEN, 40 !WR!/VPP, 41 RESET, 42 PB7 (out), 43 PB6 (out), 44 PB5 (out)
part B pins: 6 GND (power), 28 GND@1 (power), 38 VCC (power)

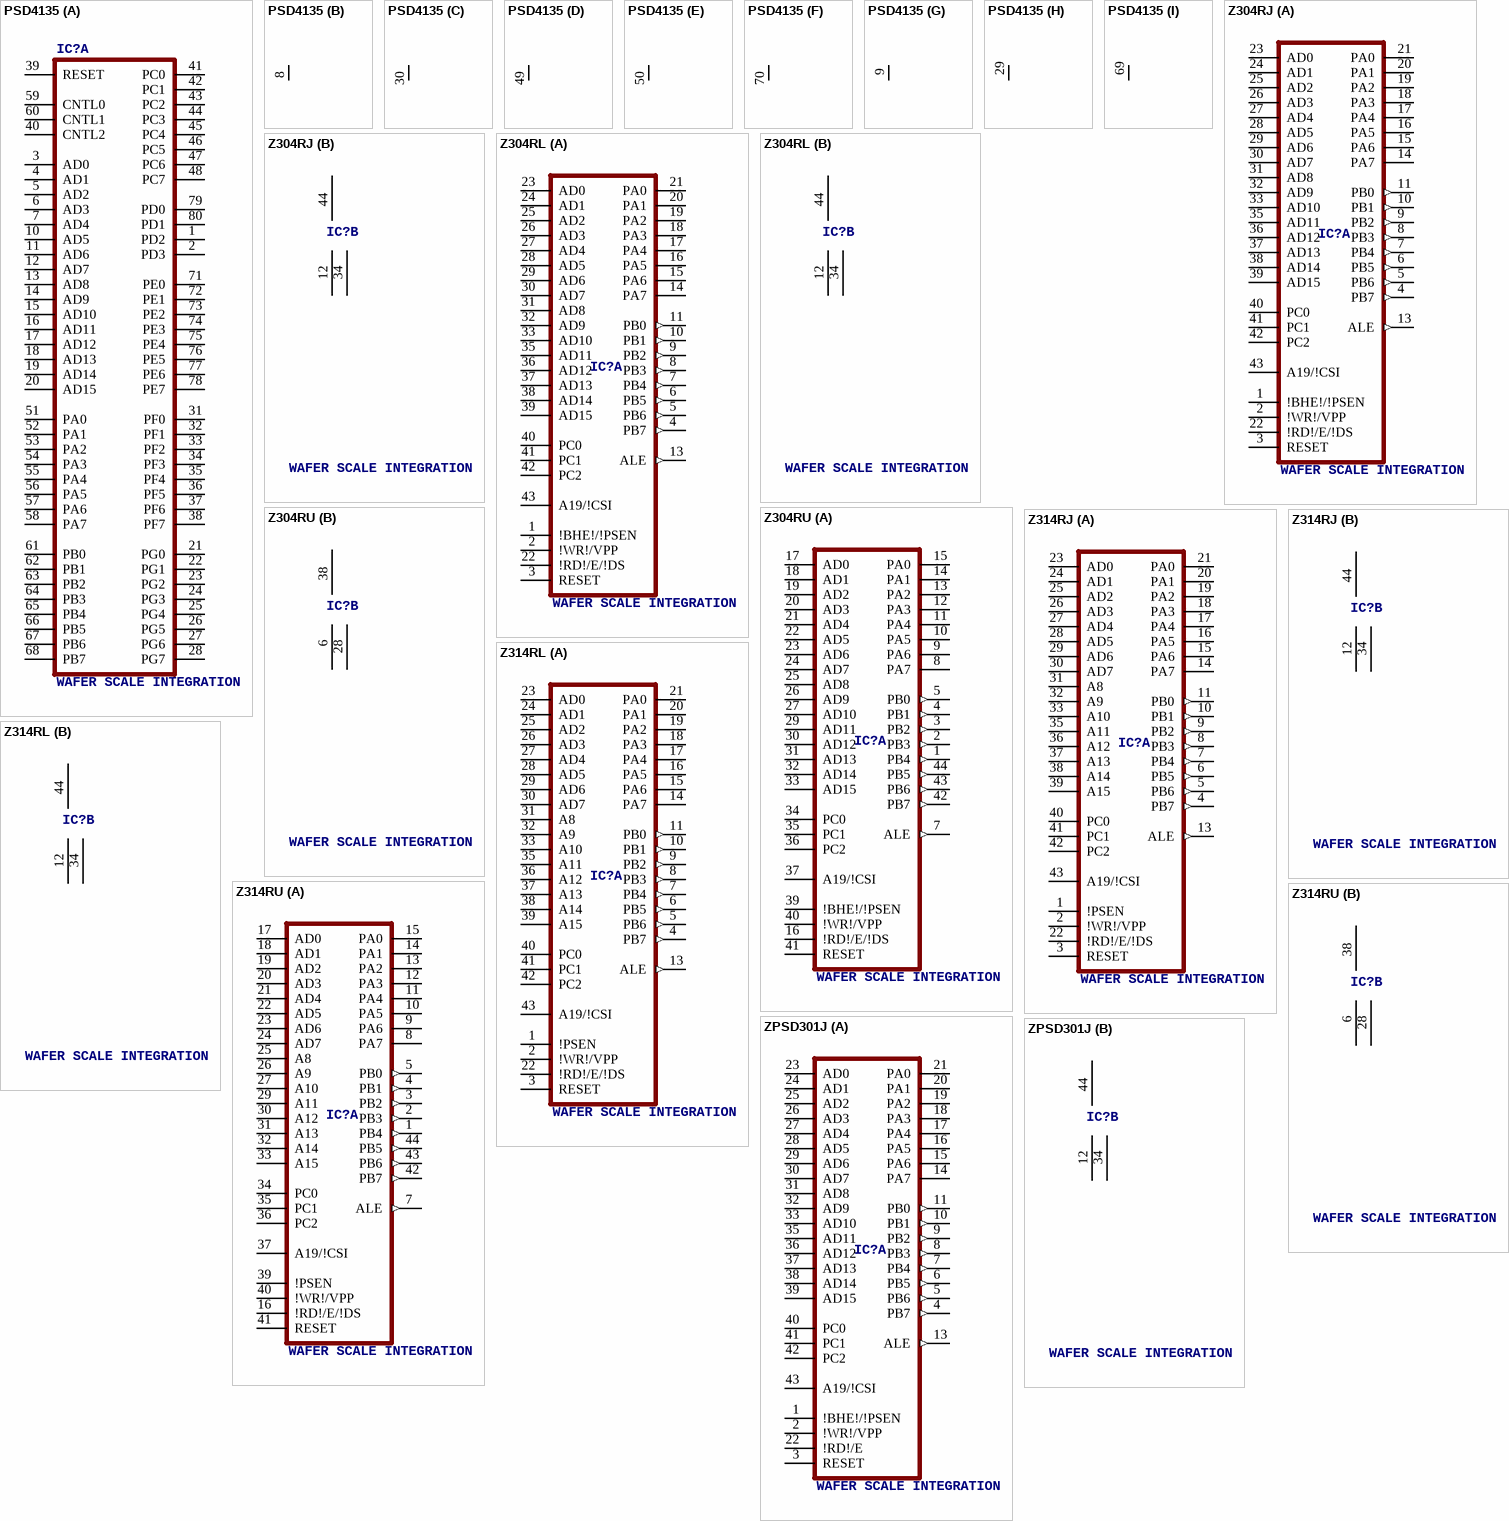
[diagram p7: symbols PSD4135 to ZPSD301J]

## PSD4135
designator IC?, comment WAFER SCALE INTEGRATION
OC_FARNELL: unknown; OC_NEWARK: unknown
footprint TQFP80
part A pins: 1 PD2, 2 PD3, 3 AD0, 4 AD1, 5 AD2, 6 AD3, 7 AD4, 10 AD5, 11 AD6, 12 AD7, 13 AD8, 14 AD9, 15 AD10, 16 AD11, 17 AD12, 18 AD13, 19 AD14, 20 AD15, 21 PG0, 22 PG1, 23 PG2, 24 PG3, 25 PG4, 26 PG5, 27 PG6, 28 PG7, 31 PF0, 32 PF1, 33 PF2, 34 PF3, 35 PF4, 36 PF5, 37 PF6, 38 PF7, 39 RESET, 40 CNTL2, 41 PC0, 42 PC1, 43 PC2, 44 PC3, 45 PC4, 46 PC5, 47 PC6, 48 PC7, 51 PA0, 52 PA1, 53 PA2, 54 PA3, 55 PA4, 56 PA5, 57 PA6, 58 PA7, 59 CNTL0, 60 CNTL1, 61 PB0, 62 PB1, 63 PB2, 64 PB3, 65 PB4, 66 PB5, 67 PB6, 68 PB7, 71 PE0, 72 PE1, 73 PE2, 74 PE3, 75 PE4, 76 PE5, 77 PE6, 78 PE7, 79 PD0, 80 PD1
part B pins: 8 GNG (power)
part C pins: 30 GNG (power)
part D pins: 49 GNG (power)
part E pins: 50 GNG (power)
part F pins: 70 GNG (power)
part G pins: 9 VCC (power)
part H pins: 29 VCC (power)
part I pins: 69 VCC (power)

## Z304RJ
designator IC?, comment WAFER SCALE INTEGRATION
OC_FARNELL: unknown; OC_NEWARK: unknown
footprint PLDCC44
part A pins: 1 !BHE!/!PSEN, 2 !WR!/VPP, 3 RESET, 4 PB7 (out), 5 PB6 (out), 6 PB5 (out), 7 PB4 (out), 8 PB3 (out), 9 PB2 (out), 10 PB1 (out), 11 PB0 (out), 13 ALE (out), 14 PA7, 15 PA6, 16 PA5, 17 PA4, 18 PA3, 19 PA2, 20 PA1, 21 PA0, 22 !RD!/E/!DS, 23 AD0, 24 AD1, 25 AD2, 26 AD3, 27 AD4, 28 AD5, 29 AD6, 30 AD7, 31 AD8, 32 AD9, 33 AD10, 35 AD11, 36 AD12, 37 AD13, 38 AD14, 39 AD15, 40 PC0, 41 PC1, 42 PC2, 43 A19/!CSI
part B pins: 12 GND (power), 34 GND@1 (power), 44 VCC (power)

## Z304RL
designator IC?, comment WAFER SCALE INTEGRATION
OC_FARNELL: unknown; OC_NEWARK: unknown
footprint CLDCC44
part A pins: 1 !BHE!/!PSEN, 2 !WR!/VPP, 3 RESET, 4 PB7 (out), 5 PB6 (out), 6 PB5 (out), 7 PB4 (out), 8 PB3 (out), 9 PB2 (out), 10 PB1 (out), 11 PB0 (out), 13 ALE (out), 14 PA7, 15 PA6, 16 PA5, 17 PA4, 18 PA3, 19 PA2, 20 PA1, 21 PA0, 22 !RD!/E/!DS, 23 AD0, 24 AD1, 25 AD2, 26 AD3, 27 AD4, 28 AD5, 29 AD6, 30 AD7, 31 AD8, 32 AD9, 33 AD10, 35 AD11, 36 AD12, 37 AD13, 38 AD14, 39 AD15, 40 PC0, 41 PC1, 42 PC2, 43 A19/!CSI
part B pins: 12 GND (power), 34 GND@1 (power), 44 VCC (power)

## Z304RU
designator IC?, comment WAFER SCALE INTEGRATION
OC_FARNELL: unknown; OC_NEWARK: unknown
footprint TQFP44
part A pins: 1 PB4 (out), 2 PB3 (out), 3 PB2 (out), 4 PB1 (out), 5 PB0 (out), 7 ALE (out), 8 PA7, 9 PA6, 10 PA5, 11 PA4, 12 PA3, 13 PA2, 14 PA1, 15 PA0, 16 !RD!/E/!DS, 17 AD0, 18 AD1, 19 AD2, 20 AD3, 21 AD4, 22 AD5, 23 AD6, 24 AD7, 25 AD8, 26 AD9, 27 AD10, 29 AD11, 30 AD12, 31 AD13, 32 AD14, 33 AD15, 34 PC0, 35 PC1, 36 PC2, 37 A19/!CSI, 39 !BHE!/!PSEN, 40 !WR!/VPP, 41 RESET, 42 PB7 (out), 43 PB6 (out), 44 PB5 (out)
part B pins: 6 GND (power), 28 GND@1 (power), 38 VCC (power)

## Z314RJ
designator IC?, comment WAFER SCALE INTEGRATION
OC_FARNELL: unknown; OC_NEWARK: unknown
footprint PLDCC44
part A pins: 1 !PSEN, 2 !WR!/VPP, 3 RESET, 4 PB7 (out), 5 PB6 (out), 6 PB5 (out), 7 PB4 (out), 8 PB3 (out), 9 PB2 (out), 10 PB1 (out), 11 PB0 (out), 13 ALE (out), 14 PA7, 15 PA6, 16 PA5, 17 PA4, 18 PA3, 19 PA2, 20 PA1, 21 PA0, 22 !RD!/E/!DS, 23 AD0, 24 AD1, 25 AD2, 26 AD3, 27 AD4, 28 AD5, 29 AD6, 30 AD7, 31 A8, 32 A9, 33 A10, 35 A11, 36 A12, 37 A13, 38 A14, 39 A15, 40 PC0, 41 PC1, 42 PC2, 43 A19/!CSI
part B pins: 12 GND (power), 34 GND@1 (power), 44 VCC (power)

## Z314RL
designator IC?, comment WAFER SCALE INTEGRATION
OC_FARNELL: unknown; OC_NEWARK: unknown
footprint CLDCC44
part A pins: 1 !PSEN, 2 !WR!/VPP, 3 RESET, 4 PB7 (out), 5 PB6 (out), 6 PB5 (out), 7 PB4 (out), 8 PB3 (out), 9 PB2 (out), 10 PB1 (out), 11 PB0 (out), 13 ALE (out), 14 PA7, 15 PA6, 16 PA5, 17 PA4, 18 PA3, 19 PA2, 20 PA1, 21 PA0, 22 !RD!/E/!DS, 23 AD0, 24 AD1, 25 AD2, 26 AD3, 27 AD4, 28 AD5, 29 AD6, 30 AD7, 31 A8, 32 A9, 33 A10, 35 A11, 36 A12, 37 A13, 38 A14, 39 A15, 40 PC0, 41 PC1, 42 PC2, 43 A19/!CSI
part B pins: 12 GND (power), 34 GND@1 (power), 44 VCC (power)

## Z314RU
designator IC?, comment WAFER SCALE INTEGRATION
OC_FARNELL: unknown; OC_NEWARK: unknown
footprint TQFP44
part A pins: 1 PB4 (out), 2 PB3 (out), 3 PB2 (out), 4 PB1 (out), 5 PB0 (out), 7 ALE (out), 8 PA7, 9 PA6, 10 PA5, 11 PA4, 12 PA3, 13 PA2, 14 PA1, 15 PA0, 16 !RD!/E/!DS, 17 AD0, 18 AD1, 19 AD2, 20 AD3, 21 AD4, 22 AD5, 23 AD6, 24 AD7, 25 A8, 26 A9, 27 A10, 29 A11, 30 A12, 31 A13, 32 A14, 33 A15, 34 PC0, 35 PC1, 36 PC2, 37 A19/!CSI, 39 !PSEN, 40 !WR!/VPP, 41 RESET, 42 PB7 (out), 43 PB6 (out), 44 PB5 (out)
part B pins: 6 GND (power), 28 GND@1 (power), 38 VCC (power)

## ZPSD301J
designator IC?, comment WAFER SCALE INTEGRATION
MPN: ZPSD301B-70J; OC_FARNELL: unknown; OC_NEWARK: 37M9798
footprint CLDCC44
part A pins: 1 !BHE!/!PSEN, 2 !WR!/VPP, 3 RESET, 4 PB7 (out), 5 PB6 (out), 6 PB5 (out), 7 PB4 (out), 8 PB3 (out), 9 PB2 (out), 10 PB1 (out), 11 PB0 (out), 13 ALE (out), 14 PA7, 15 PA6, 16 PA5, 17 PA4, 18 PA3, 19 PA2, 20 PA1, 21 PA0, 22 !RD!/E, 23 AD0, 24 AD1, 25 AD2, 26 AD3, 27 AD4, 28 AD5, 29 AD6, 30 AD7, 31 AD8, 32 AD9, 33 AD10, 35 AD11, 36 AD12, 37 AD13, 38 AD14, 39 AD15, 40 PC0, 41 PC1, 42 PC2, 43 A19/!CSI
part B pins: 12 GND (power), 34 GND@1 (power), 44 VCC (power)

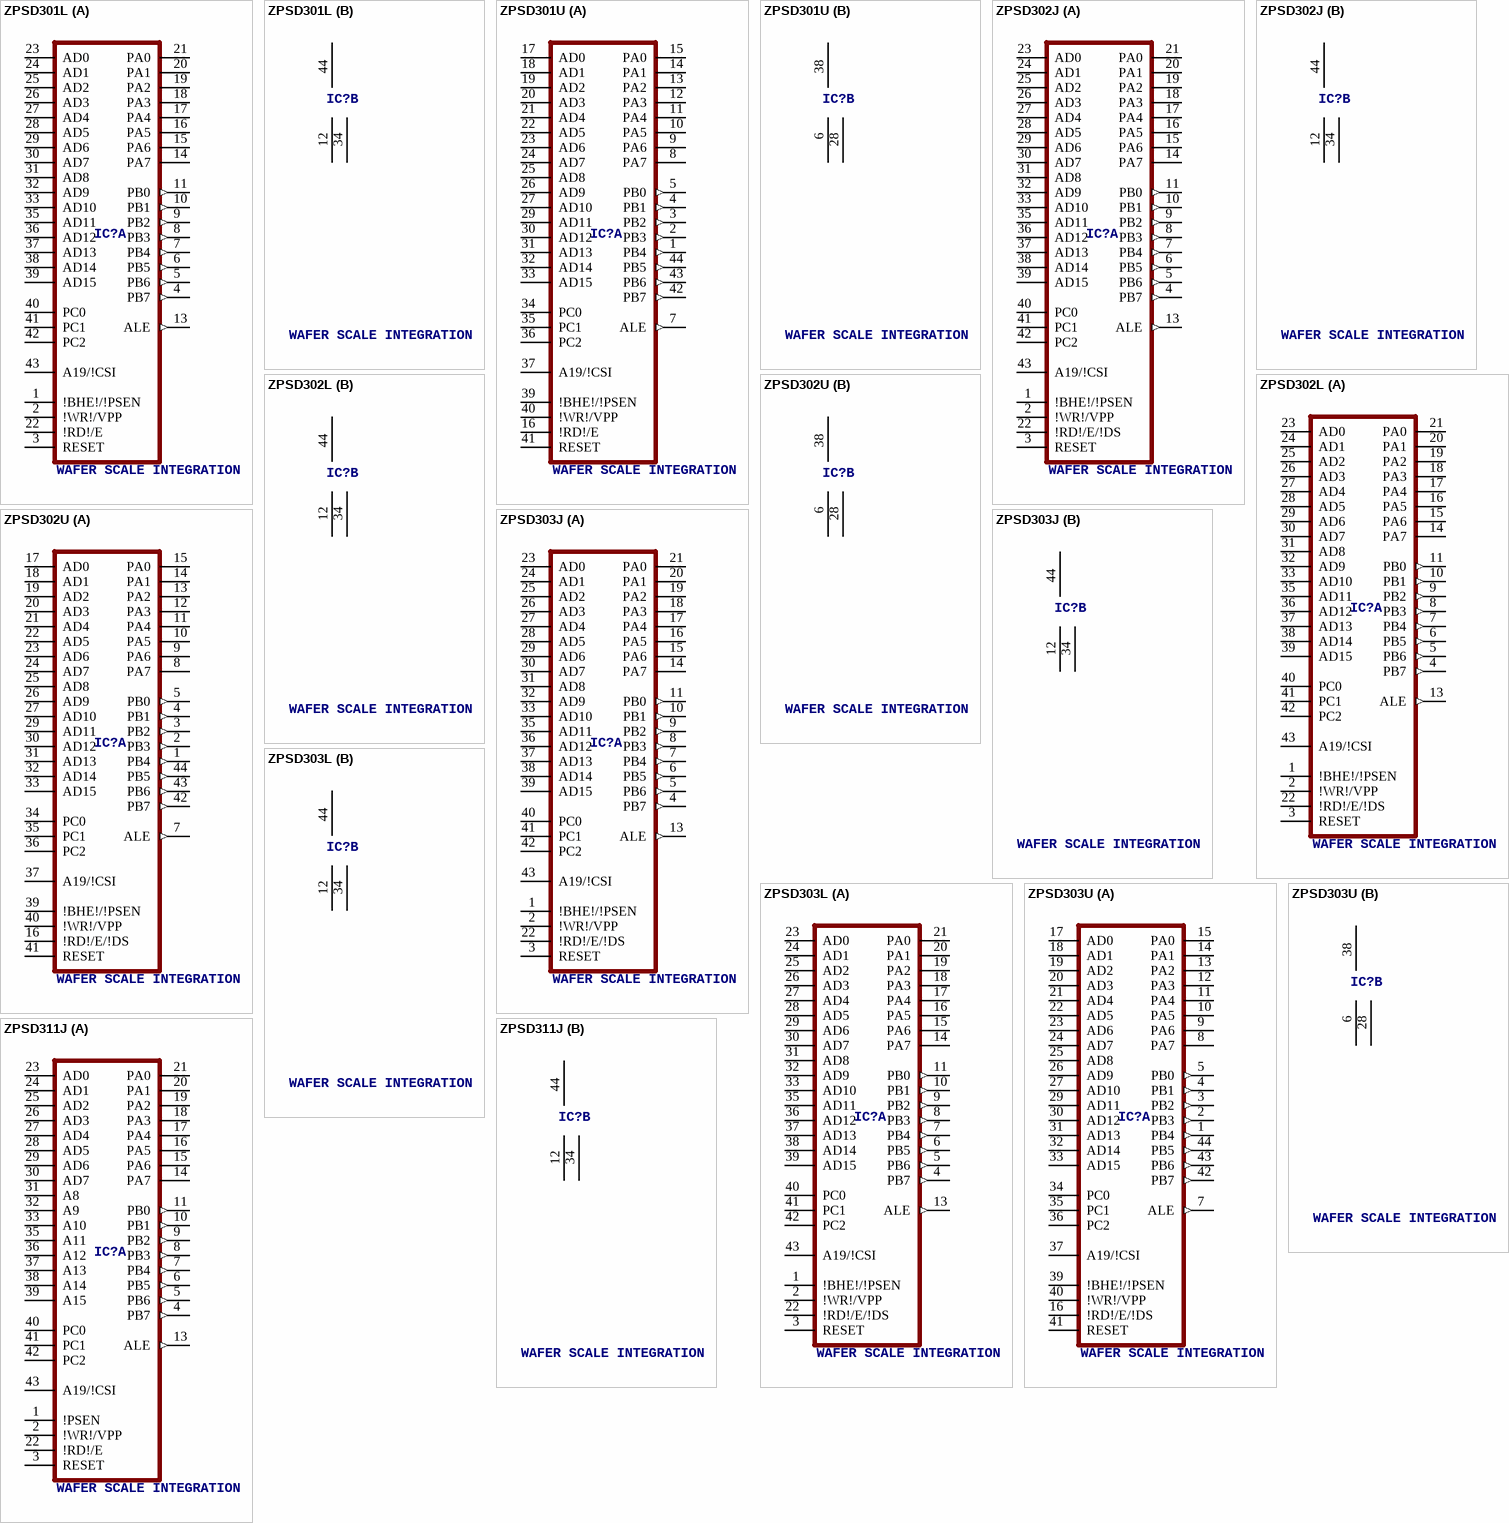
[diagram p8: symbols ZPSD301L to ZPSD311J]

## ZPSD301L
designator IC?, comment WAFER SCALE INTEGRATION
OC_FARNELL: unknown; OC_NEWARK: unknown
footprint CLDCC44
part A pins: 1 !BHE!/!PSEN, 2 !WR!/VPP, 3 RESET, 4 PB7 (out), 5 PB6 (out), 6 PB5 (out), 7 PB4 (out), 8 PB3 (out), 9 PB2 (out), 10 PB1 (out), 11 PB0 (out), 13 ALE (out), 14 PA7, 15 PA6, 16 PA5, 17 PA4, 18 PA3, 19 PA2, 20 PA1, 21 PA0, 22 !RD!/E, 23 AD0, 24 AD1, 25 AD2, 26 AD3, 27 AD4, 28 AD5, 29 AD6, 30 AD7, 31 AD8, 32 AD9, 33 AD10, 35 AD11, 36 AD12, 37 AD13, 38 AD14, 39 AD15, 40 PC0, 41 PC1, 42 PC2, 43 A19/!CSI
part B pins: 12 GND (power), 34 GND@1 (power), 44 VCC (power)

## ZPSD301U
designator IC?, comment WAFER SCALE INTEGRATION
OC_FARNELL: unknown; OC_NEWARK: unknown
footprint TQFP44
part A pins: 1 PB4 (out), 2 PB3 (out), 3 PB2 (out), 4 PB1 (out), 5 PB0 (out), 7 ALE (out), 8 PA7, 9 PA6, 10 PA5, 11 PA4, 12 PA3, 13 PA2, 14 PA1, 15 PA0, 16 !RD!/E, 17 AD0, 18 AD1, 19 AD2, 20 AD3, 21 AD4, 22 AD5, 23 AD6, 24 AD7, 25 AD8, 26 AD9, 27 AD10, 29 AD11, 30 AD12, 31 AD13, 32 AD14, 33 AD15, 34 PC0, 35 PC1, 36 PC2, 37 A19/!CSI, 39 !BHE!/!PSEN, 40 !WR!/VPP, 41 RESET, 42 PB7 (out), 43 PB6 (out), 44 PB5 (out)
part B pins: 6 GND (power), 28 GND@1 (power), 38 VCC (power)

## ZPSD302J
designator IC?, comment WAFER SCALE INTEGRATION
OC_FARNELL: unknown; OC_NEWARK: unknown
footprint PLDCC44
part A pins: 1 !BHE!/!PSEN, 2 !WR!/VPP, 3 RESET, 4 PB7 (out), 5 PB6 (out), 6 PB5 (out), 7 PB4 (out), 8 PB3 (out), 9 PB2 (out), 10 PB1 (out), 11 PB0 (out), 13 ALE (out), 14 PA7, 15 PA6, 16 PA5, 17 PA4, 18 PA3, 19 PA2, 20 PA1, 21 PA0, 22 !RD!/E/!DS, 23 AD0, 24 AD1, 25 AD2, 26 AD3, 27 AD4, 28 AD5, 29 AD6, 30 AD7, 31 AD8, 32 AD9, 33 AD10, 35 AD11, 36 AD12, 37 AD13, 38 AD14, 39 AD15, 40 PC0, 41 PC1, 42 PC2, 43 A19/!CSI
part B pins: 12 GND (power), 34 GND@1 (power), 44 VCC (power)

## ZPSD302L
designator IC?, comment WAFER SCALE INTEGRATION
OC_FARNELL: unknown; OC_NEWARK: unknown
footprint CLDCC44
part A pins: 1 !BHE!/!PSEN, 2 !WR!/VPP, 3 RESET, 4 PB7 (out), 5 PB6 (out), 6 PB5 (out), 7 PB4 (out), 8 PB3 (out), 9 PB2 (out), 10 PB1 (out), 11 PB0 (out), 13 ALE (out), 14 PA7, 15 PA6, 16 PA5, 17 PA4, 18 PA3, 19 PA2, 20 PA1, 21 PA0, 22 !RD!/E/!DS, 23 AD0, 24 AD1, 25 AD2, 26 AD3, 27 AD4, 28 AD5, 29 AD6, 30 AD7, 31 AD8, 32 AD9, 33 AD10, 35 AD11, 36 AD12, 37 AD13, 38 AD14, 39 AD15, 40 PC0, 41 PC1, 42 PC2, 43 A19/!CSI
part B pins: 12 GND (power), 34 GND@1 (power), 44 VCC (power)

## ZPSD302U
designator IC?, comment WAFER SCALE INTEGRATION
OC_FARNELL: unknown; OC_NEWARK: unknown
footprint TQFP44
part A pins: 1 PB4 (out), 2 PB3 (out), 3 PB2 (out), 4 PB1 (out), 5 PB0 (out), 7 ALE (out), 8 PA7, 9 PA6, 10 PA5, 11 PA4, 12 PA3, 13 PA2, 14 PA1, 15 PA0, 16 !RD!/E/!DS, 17 AD0, 18 AD1, 19 AD2, 20 AD3, 21 AD4, 22 AD5, 23 AD6, 24 AD7, 25 AD8, 26 AD9, 27 AD10, 29 AD11, 30 AD12, 31 AD13, 32 AD14, 33 AD15, 34 PC0, 35 PC1, 36 PC2, 37 A19/!CSI, 39 !BHE!/!PSEN, 40 !WR!/VPP, 41 RESET, 42 PB7 (out), 43 PB6 (out), 44 PB5 (out)
part B pins: 6 GND (power), 28 GND@1 (power), 38 VCC (power)

## ZPSD303J
designator IC?, comment WAFER SCALE INTEGRATION
OC_FARNELL: unknown; OC_NEWARK: unknown
footprint PLDCC44
part A pins: 1 !BHE!/!PSEN, 2 !WR!/VPP, 3 RESET, 4 PB7 (out), 5 PB6 (out), 6 PB5 (out), 7 PB4 (out), 8 PB3 (out), 9 PB2 (out), 10 PB1 (out), 11 PB0 (out), 13 ALE (out), 14 PA7, 15 PA6, 16 PA5, 17 PA4, 18 PA3, 19 PA2, 20 PA1, 21 PA0, 22 !RD!/E/!DS, 23 AD0, 24 AD1, 25 AD2, 26 AD3, 27 AD4, 28 AD5, 29 AD6, 30 AD7, 31 AD8, 32 AD9, 33 AD10, 35 AD11, 36 AD12, 37 AD13, 38 AD14, 39 AD15, 40 PC0, 41 PC1, 42 PC2, 43 A19/!CSI
part B pins: 12 GND (power), 34 GND@1 (power), 44 VCC (power)

## ZPSD303L
designator IC?, comment WAFER SCALE INTEGRATION
OC_FARNELL: unknown; OC_NEWARK: unknown
footprint CLDCC44
part A pins: 1 !BHE!/!PSEN, 2 !WR!/VPP, 3 RESET, 4 PB7 (out), 5 PB6 (out), 6 PB5 (out), 7 PB4 (out), 8 PB3 (out), 9 PB2 (out), 10 PB1 (out), 11 PB0 (out), 13 ALE (out), 14 PA7, 15 PA6, 16 PA5, 17 PA4, 18 PA3, 19 PA2, 20 PA1, 21 PA0, 22 !RD!/E/!DS, 23 AD0, 24 AD1, 25 AD2, 26 AD3, 27 AD4, 28 AD5, 29 AD6, 30 AD7, 31 AD8, 32 AD9, 33 AD10, 35 AD11, 36 AD12, 37 AD13, 38 AD14, 39 AD15, 40 PC0, 41 PC1, 42 PC2, 43 A19/!CSI
part B pins: 12 GND (power), 34 GND@1 (power), 44 VCC (power)

## ZPSD303U
designator IC?, comment WAFER SCALE INTEGRATION
OC_FARNELL: unknown; OC_NEWARK: unknown
footprint TQFP44
part A pins: 1 PB4 (out), 2 PB3 (out), 3 PB2 (out), 4 PB1 (out), 5 PB0 (out), 7 ALE (out), 8 PA7, 9 PA6, 10 PA5, 11 PA4, 12 PA3, 13 PA2, 14 PA1, 15 PA0, 16 !RD!/E/!DS, 17 AD0, 18 AD1, 19 AD2, 20 AD3, 21 AD4, 22 AD5, 23 AD6, 24 AD7, 25 AD8, 26 AD9, 27 AD10, 29 AD11, 30 AD12, 31 AD13, 32 AD14, 33 AD15, 34 PC0, 35 PC1, 36 PC2, 37 A19/!CSI, 39 !BHE!/!PSEN, 40 !WR!/VPP, 41 RESET, 42 PB7 (out), 43 PB6 (out), 44 PB5 (out)
part B pins: 6 GND (power), 28 GND@1 (power), 38 VCC (power)

## ZPSD311J
designator IC?, comment WAFER SCALE INTEGRATION
OC_FARNELL: unknown; OC_NEWARK: unknown
footprint PLDCC44
part A pins: 1 !PSEN, 2 !WR!/VPP, 3 RESET, 4 PB7 (out), 5 PB6 (out), 6 PB5 (out), 7 PB4 (out), 8 PB3 (out), 9 PB2 (out), 10 PB1 (out), 11 PB0 (out), 13 ALE (out), 14 PA7, 15 PA6, 16 PA5, 17 PA4, 18 PA3, 19 PA2, 20 PA1, 21 PA0, 22 !RD!/E, 23 AD0, 24 AD1, 25 AD2, 26 AD3, 27 AD4, 28 AD5, 29 AD6, 30 AD7, 31 A8, 32 A9, 33 A10, 35 A11, 36 A12, 37 A13, 38 A14, 39 A15, 40 PC0, 41 PC1, 42 PC2, 43 A19/!CSI
part B pins: 12 GND (power), 34 GND@1 (power), 44 VCC (power)

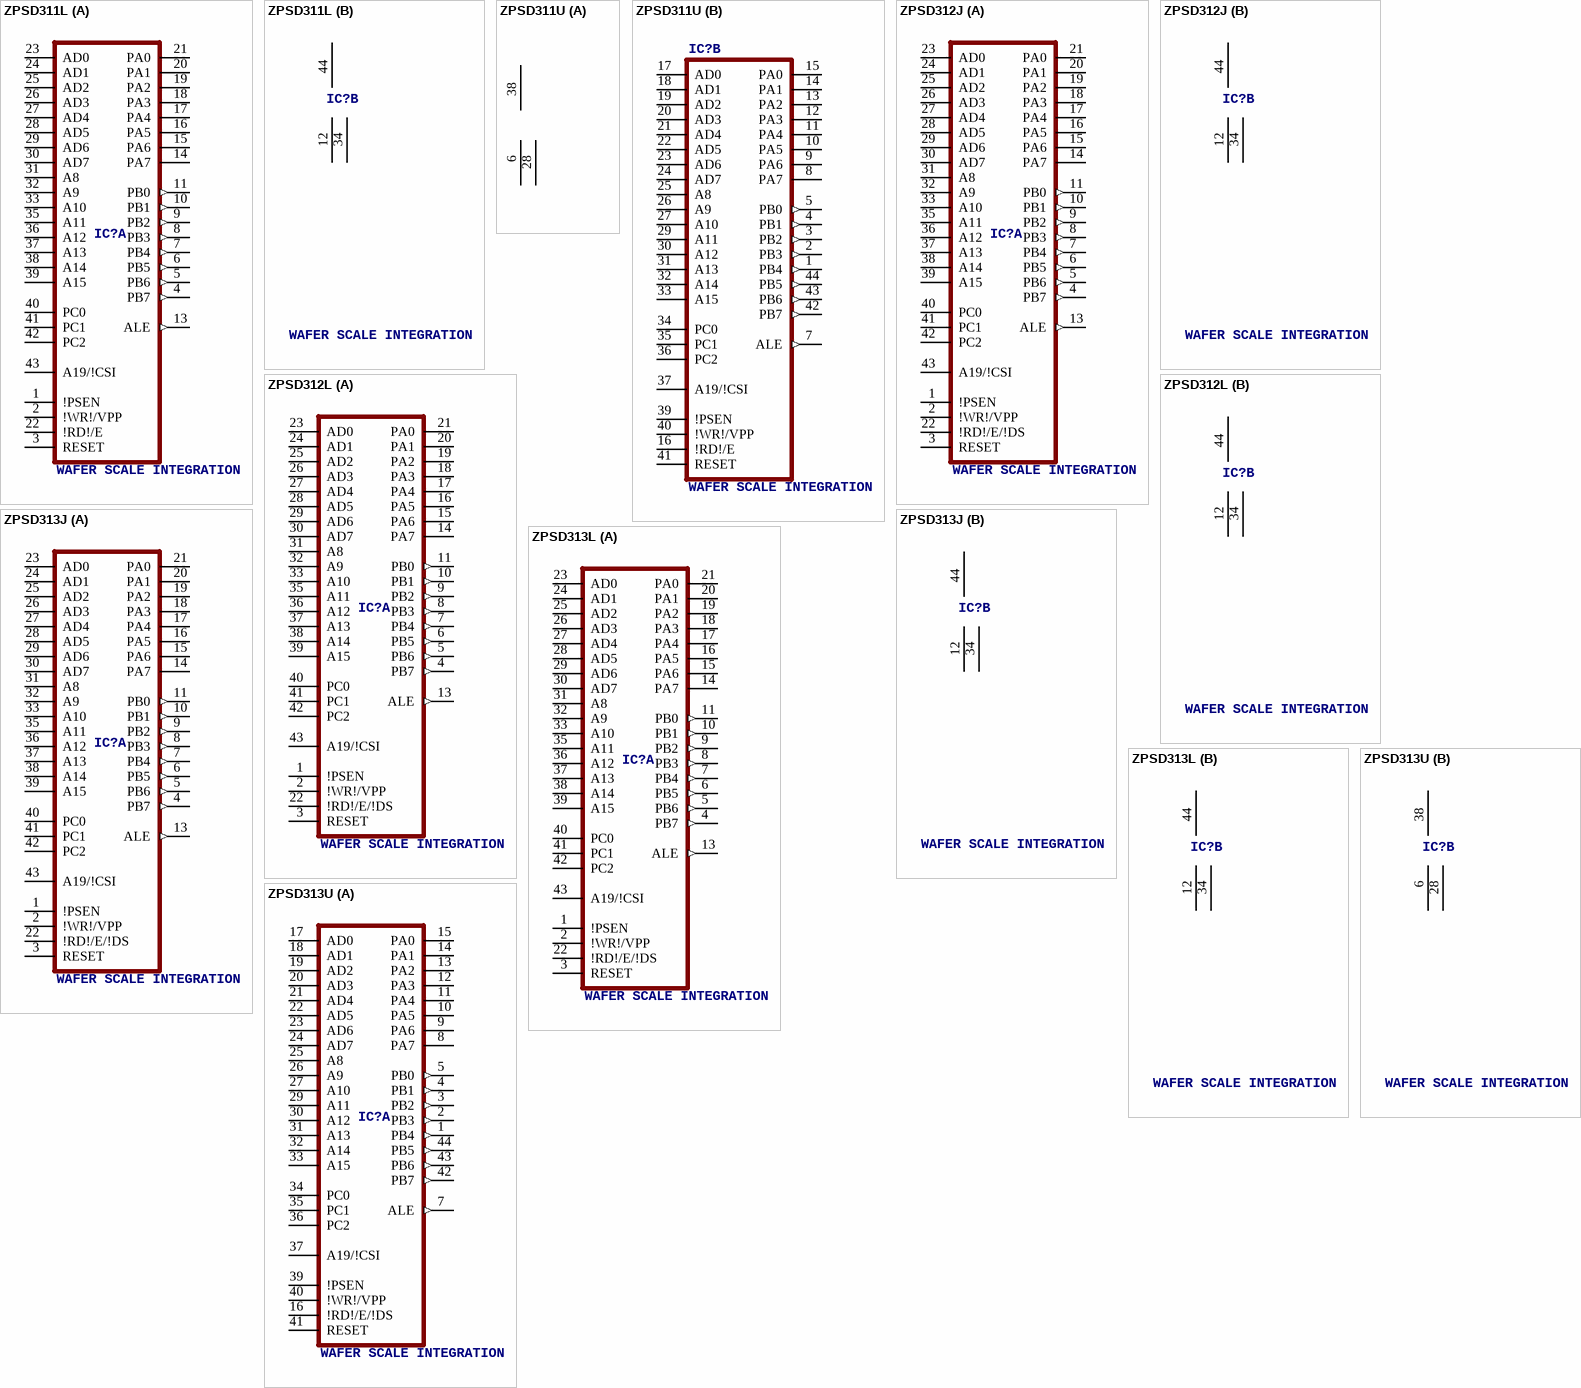
[diagram p9: symbols ZPSD311L to ZPSD313U]

## ZPSD311L
designator IC?, comment WAFER SCALE INTEGRATION
OC_FARNELL: unknown; OC_NEWARK: unknown
footprint CLDCC44
part A pins: 1 !PSEN, 2 !WR!/VPP, 3 RESET, 4 PB7 (out), 5 PB6 (out), 6 PB5 (out), 7 PB4 (out), 8 PB3 (out), 9 PB2 (out), 10 PB1 (out), 11 PB0 (out), 13 ALE (out), 14 PA7, 15 PA6, 16 PA5, 17 PA4, 18 PA3, 19 PA2, 20 PA1, 21 PA0, 22 !RD!/E, 23 AD0, 24 AD1, 25 AD2, 26 AD3, 27 AD4, 28 AD5, 29 AD6, 30 AD7, 31 A8, 32 A9, 33 A10, 35 A11, 36 A12, 37 A13, 38 A14, 39 A15, 40 PC0, 41 PC1, 42 PC2, 43 A19/!CSI
part B pins: 12 GND (power), 34 GND@1 (power), 44 VCC (power)

## ZPSD311U
designator IC?, comment WAFER SCALE INTEGRATION
OC_FARNELL: unknown; OC_NEWARK: unknown
footprint TQFP44
part A pins: 6 GND (power), 28 GND@1 (power), 38 VCC (power)
part B pins: 1 PB4 (out), 2 PB3 (out), 3 PB2 (out), 4 PB1 (out), 5 PB0 (out), 7 ALE (out), 8 PA7, 9 PA6, 10 PA5, 11 PA4, 12 PA3, 13 PA2, 14 PA1, 15 PA0, 16 !RD!/E, 17 AD0, 18 AD1, 19 AD2, 20 AD3, 21 AD4, 22 AD5, 23 AD6, 24 AD7, 25 A8, 26 A9, 27 A10, 29 A11, 30 A12, 31 A13, 32 A14, 33 A15, 34 PC0, 35 PC1, 36 PC2, 37 A19/!CSI, 39 !PSEN, 40 !WR!/VPP, 41 RESET, 42 PB7 (out), 43 PB6 (out), 44 PB5 (out)

## ZPSD312J
designator IC?, comment WAFER SCALE INTEGRATION
OC_FARNELL: unknown; OC_NEWARK: unknown
footprint PLDCC44
part A pins: 1 !PSEN, 2 !WR!/VPP, 3 RESET, 4 PB7 (out), 5 PB6 (out), 6 PB5 (out), 7 PB4 (out), 8 PB3 (out), 9 PB2 (out), 10 PB1 (out), 11 PB0 (out), 13 ALE (out), 14 PA7, 15 PA6, 16 PA5, 17 PA4, 18 PA3, 19 PA2, 20 PA1, 21 PA0, 22 !RD!/E/!DS, 23 AD0, 24 AD1, 25 AD2, 26 AD3, 27 AD4, 28 AD5, 29 AD6, 30 AD7, 31 A8, 32 A9, 33 A10, 35 A11, 36 A12, 37 A13, 38 A14, 39 A15, 40 PC0, 41 PC1, 42 PC2, 43 A19/!CSI
part B pins: 12 GND (power), 34 GND@1 (power), 44 VCC (power)

## ZPSD312L
designator IC?, comment WAFER SCALE INTEGRATION
OC_FARNELL: unknown; OC_NEWARK: unknown
footprint CLDCC44
part A pins: 1 !PSEN, 2 !WR!/VPP, 3 RESET, 4 PB7 (out), 5 PB6 (out), 6 PB5 (out), 7 PB4 (out), 8 PB3 (out), 9 PB2 (out), 10 PB1 (out), 11 PB0 (out), 13 ALE (out), 14 PA7, 15 PA6, 16 PA5, 17 PA4, 18 PA3, 19 PA2, 20 PA1, 21 PA0, 22 !RD!/E/!DS, 23 AD0, 24 AD1, 25 AD2, 26 AD3, 27 AD4, 28 AD5, 29 AD6, 30 AD7, 31 A8, 32 A9, 33 A10, 35 A11, 36 A12, 37 A13, 38 A14, 39 A15, 40 PC0, 41 PC1, 42 PC2, 43 A19/!CSI
part B pins: 12 GND (power), 34 GND@1 (power), 44 VCC (power)